# Altium schematic symbol library MCU_NXP_LPC.SchLib: 105 symbols (part 2 of 2)
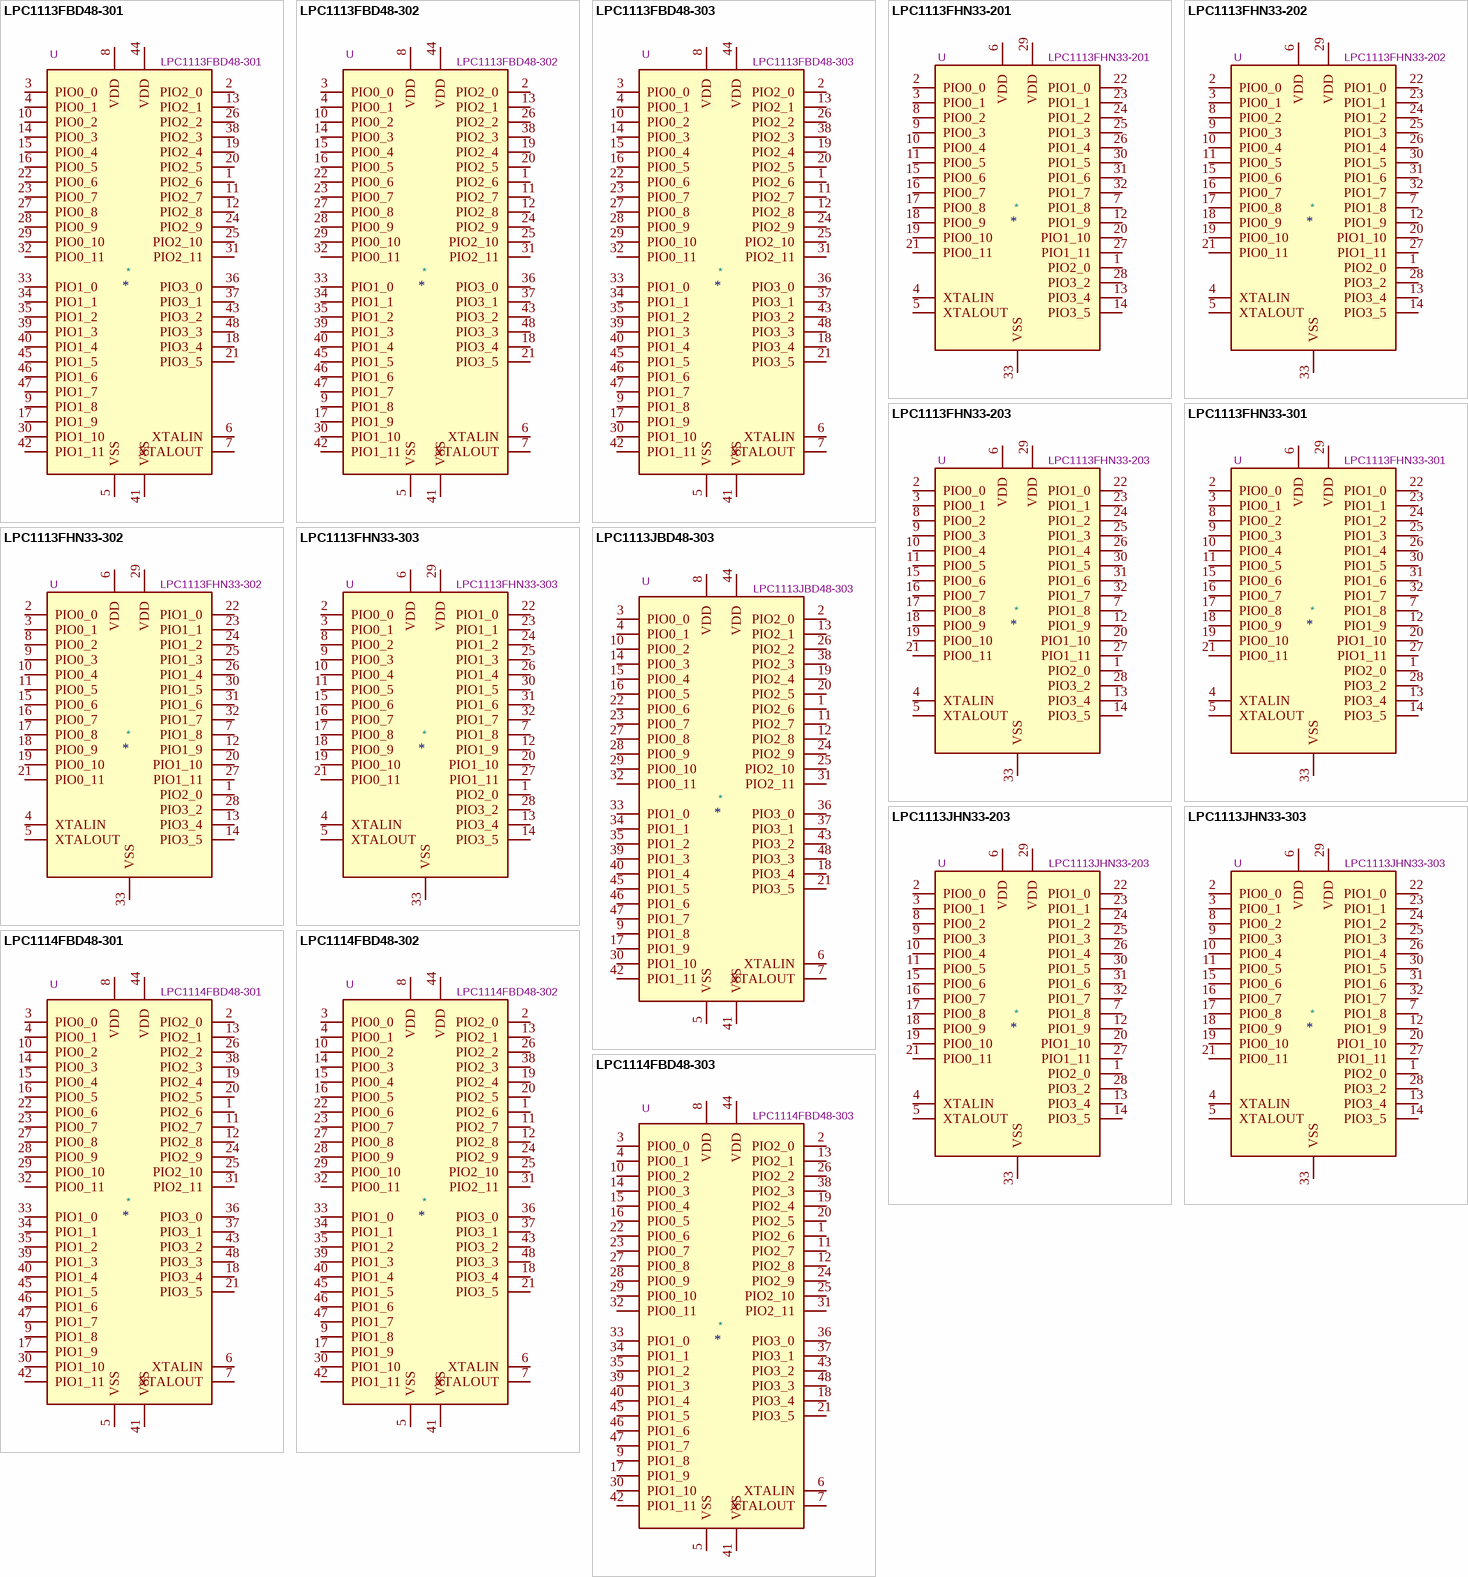
[diagram p8: symbols LPC1113FBD48-301 to LPC1114FBD48-303]

## LPC1114FBD48-301
designator *  value LPC1114FBD48-301  Reference: U
32-bit ARM Cortex-M0 microcontroller, 32KB flash, 8KB SRAM; ki_keywords: ARM, 32-bit, Cortex-M0, M0, NXP, microcontroller; ki_fp_filters: *QFP*7x7mm*P0.5mm*; Footprint: Package_QFP:LQFP-48_7x7mm_P0.5mm; Datasheet: http://www.nxp.com/docs/en/data-sheet/LPC111X.pdf; Description_: 32-bit ARM Cortex-M0 microcontroller, 32KB flash, 8KB SRAM
pins: 1 PIO2_6, 2 PIO2_0, 3 PIO0_0, 4 PIO0_1, 5 VSS, 6 XTALIN, 7 XTALOUT, 8 VDD, 9 PIO1_8, 10 PIO0_2, 11 PIO2_7, 12 PIO2_8, 13 PIO2_1, 14 PIO0_3, 15 PIO0_4, 16 PIO0_5, 17 PIO1_9, 18 PIO3_4, 19 PIO2_4, 20 PIO2_5, 21 PIO3_5, 22 PIO0_6, 23 PIO0_7, 24 PIO2_9, 25 PIO2_10, 26 PIO2_2, 27 PIO0_8, 28 PIO0_9, 29 PIO0_10, 30 PIO1_10, 31 PIO2_11, 32 PIO0_11, 33 PIO1_0, 34 PIO1_1, 35 PIO1_2, 36 PIO3_0, 37 PIO3_1, 38 PIO2_3, 39 PIO1_3, 40 PIO1_4, 41 VSS, 42 PIO1_11, 43 PIO3_2, 44 VDD, 45 PIO1_5, 46 PIO1_6, 47 PIO1_7, 48 PIO3_3

## LPC1114FBD48-302
designator *  value LPC1114FBD48-302  Reference: U
32-bit ARM Cortex-M0 microcontroller, 32KB flash, 8KB SRAM, power profile; ki_keywords: ARM, 32-bit, Cortex-M0, M0, NXP, microcontroller; ki_fp_filters: *QFP*7x7mm*P0.5mm*; Footprint: Package_QFP:LQFP-48_7x7mm_P0.5mm; Datasheet: http://www.nxp.com/docs/en/data-sheet/LPC111X.pdf; Description_: 32-bit ARM Cortex-M0 microcontroller, 32KB flash, 8KB SRAM, power profile
pins: 1 PIO2_6, 2 PIO2_0, 3 PIO0_0, 4 PIO0_1, 5 VSS, 6 XTALIN, 7 XTALOUT, 8 VDD, 9 PIO1_8, 10 PIO0_2, 11 PIO2_7, 12 PIO2_8, 13 PIO2_1, 14 PIO0_3, 15 PIO0_4, 16 PIO0_5, 17 PIO1_9, 18 PIO3_4, 19 PIO2_4, 20 PIO2_5, 21 PIO3_5, 22 PIO0_6, 23 PIO0_7, 24 PIO2_9, 25 PIO2_10, 26 PIO2_2, 27 PIO0_8, 28 PIO0_9, 29 PIO0_10, 30 PIO1_10, 31 PIO2_11, 32 PIO0_11, 33 PIO1_0, 34 PIO1_1, 35 PIO1_2, 36 PIO3_0, 37 PIO3_1, 38 PIO2_3, 39 PIO1_3, 40 PIO1_4, 41 VSS, 42 PIO1_11, 43 PIO3_2, 44 VDD, 45 PIO1_5, 46 PIO1_6, 47 PIO1_7, 48 PIO3_3

## LPC1114FBD48-303
designator *  value LPC1114FBD48-303  Reference: U
32-bit ARM Cortex-M0 microcontroller, 32KB flash, 8KB SRAM, power profile; ki_keywords: ARM, 32-bit, Cortex-M0, M0, NXP, microcontroller; ki_fp_filters: *QFP*7x7mm*P0.5mm*; Footprint: Package_QFP:LQFP-48_7x7mm_P0.5mm; Datasheet: http://www.nxp.com/docs/en/data-sheet/LPC111X.pdf; Description_: 32-bit ARM Cortex-M0 microcontroller, 32KB flash, 8KB SRAM, power profile
pins: 1 PIO2_6, 2 PIO2_0, 3 PIO0_0, 4 PIO0_1, 5 VSS, 6 XTALIN, 7 XTALOUT, 8 VDD, 9 PIO1_8, 10 PIO0_2, 11 PIO2_7, 12 PIO2_8, 13 PIO2_1, 14 PIO0_3, 15 PIO0_4, 16 PIO0_5, 17 PIO1_9, 18 PIO3_4, 19 PIO2_4, 20 PIO2_5, 21 PIO3_5, 22 PIO0_6, 23 PIO0_7, 24 PIO2_9, 25 PIO2_10, 26 PIO2_2, 27 PIO0_8, 28 PIO0_9, 29 PIO0_10, 30 PIO1_10, 31 PIO2_11, 32 PIO0_11, 33 PIO1_0, 34 PIO1_1, 35 PIO1_2, 36 PIO3_0, 37 PIO3_1, 38 PIO2_3, 39 PIO1_3, 40 PIO1_4, 41 VSS, 42 PIO1_11, 43 PIO3_2, 44 VDD, 45 PIO1_5, 46 PIO1_6, 47 PIO1_7, 48 PIO3_3

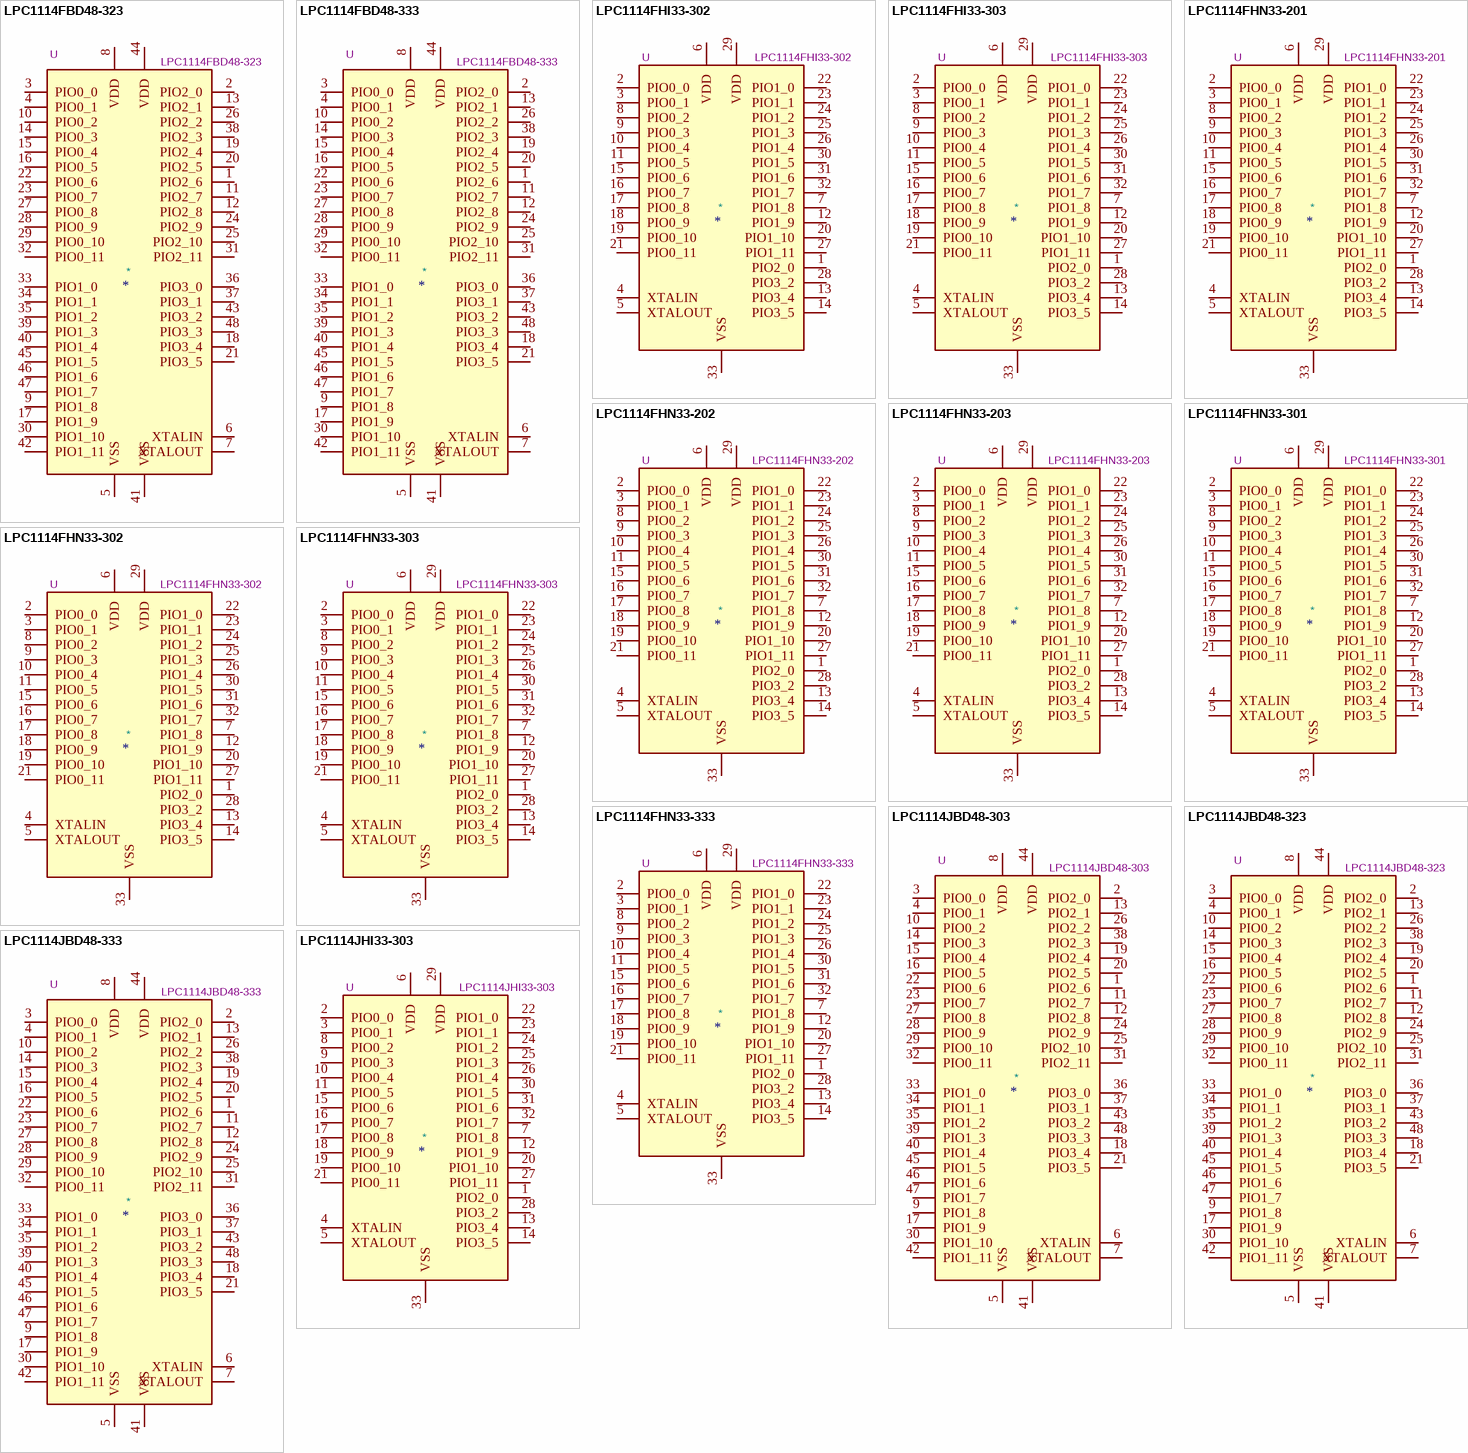
[diagram p4: symbols LPC1114FBD48-323 to LPC1114JHI33-303]

## LPC1114FBD48-323
designator *  value LPC1114FBD48-323  Reference: U
32-bit ARM Cortex-M0 microcontroller, 48KB flash, 8KB SRAM, power profile; ki_keywords: ARM, 32-bit, Cortex-M0, M0, NXP, microcontroller; ki_fp_filters: *QFP*7x7mm*P0.5mm*; Footprint: Package_QFP:LQFP-48_7x7mm_P0.5mm; Datasheet: http://www.nxp.com/docs/en/data-sheet/LPC111X.pdf; Description_: 32-bit ARM Cortex-M0 microcontroller, 48KB flash, 8KB SRAM, power profile
pins: 1 PIO2_6, 2 PIO2_0, 3 PIO0_0, 4 PIO0_1, 5 VSS, 6 XTALIN, 7 XTALOUT, 8 VDD, 9 PIO1_8, 10 PIO0_2, 11 PIO2_7, 12 PIO2_8, 13 PIO2_1, 14 PIO0_3, 15 PIO0_4, 16 PIO0_5, 17 PIO1_9, 18 PIO3_4, 19 PIO2_4, 20 PIO2_5, 21 PIO3_5, 22 PIO0_6, 23 PIO0_7, 24 PIO2_9, 25 PIO2_10, 26 PIO2_2, 27 PIO0_8, 28 PIO0_9, 29 PIO0_10, 30 PIO1_10, 31 PIO2_11, 32 PIO0_11, 33 PIO1_0, 34 PIO1_1, 35 PIO1_2, 36 PIO3_0, 37 PIO3_1, 38 PIO2_3, 39 PIO1_3, 40 PIO1_4, 41 VSS, 42 PIO1_11, 43 PIO3_2, 44 VDD, 45 PIO1_5, 46 PIO1_6, 47 PIO1_7, 48 PIO3_3

## LPC1114FBD48-333
designator *  value LPC1114FBD48-333  Reference: U
32-bit ARM Cortex-M0 microcontroller, 56KB flash, 8KB SRAM, power profile; ki_keywords: ARM, 32-bit, Cortex-M0, M0, NXP, microcontroller; ki_fp_filters: *QFP*7x7mm*P0.5mm*; Footprint: Package_QFP:LQFP-48_7x7mm_P0.5mm; Datasheet: http://www.nxp.com/docs/en/data-sheet/LPC111X.pdf; Description_: 32-bit ARM Cortex-M0 microcontroller, 56KB flash, 8KB SRAM, power profile
pins: 1 PIO2_6, 2 PIO2_0, 3 PIO0_0, 4 PIO0_1, 5 VSS, 6 XTALIN, 7 XTALOUT, 8 VDD, 9 PIO1_8, 10 PIO0_2, 11 PIO2_7, 12 PIO2_8, 13 PIO2_1, 14 PIO0_3, 15 PIO0_4, 16 PIO0_5, 17 PIO1_9, 18 PIO3_4, 19 PIO2_4, 20 PIO2_5, 21 PIO3_5, 22 PIO0_6, 23 PIO0_7, 24 PIO2_9, 25 PIO2_10, 26 PIO2_2, 27 PIO0_8, 28 PIO0_9, 29 PIO0_10, 30 PIO1_10, 31 PIO2_11, 32 PIO0_11, 33 PIO1_0, 34 PIO1_1, 35 PIO1_2, 36 PIO3_0, 37 PIO3_1, 38 PIO2_3, 39 PIO1_3, 40 PIO1_4, 41 VSS, 42 PIO1_11, 43 PIO3_2, 44 VDD, 45 PIO1_5, 46 PIO1_6, 47 PIO1_7, 48 PIO3_3

## LPC1114FHI33-302
designator *  value LPC1114FHI33-302  Reference: U
32-bit ARM Cortex-M0 microcontroller, 32KB flash, 8KB SRAM, power profile; ki_keywords: ARM, 32-bit, Cortex-M0, M0, NXP, microcontroller; ki_fp_filters: *QFN*5x5mm*P0.5mm*; Footprint: Package_DFN_QFN:QFN-32-1EP_5x5mm_P0.5mm_EP3.45x3.45mm; Datasheet: https://www.nxp.com/docs/en/data-sheet/LPC111X.pdf; Description_: 32-bit ARM Cortex-M0 microcontroller, 32KB flash, 8KB SRAM, power profile
pins: 1 PIO2_0, 2 PIO0_0, 3 PIO0_1, 4 XTALIN, 5 XTALOUT, 6 VDD, 7 PIO1_8, 8 PIO0_2, 9 PIO0_3, 10 PIO0_4, 11 PIO0_5, 12 PIO1_9, 13 PIO3_4, 14 PIO3_5, 15 PIO0_6, 16 PIO0_7, 17 PIO0_8, 18 PIO0_9, 19 PIO0_10, 20 PIO1_10, 21 PIO0_11, 22 PIO1_0, 23 PIO1_1, 24 PIO1_2, 25 PIO1_3, 26 PIO1_4, 27 PIO1_11, 28 PIO3_2, 29 VDD, 30 PIO1_5, 31 PIO1_6, 32 PIO1_7, 33 VSS

## LPC1114FHI33-303
designator *  value LPC1114FHI33-303  Reference: U
32-bit ARM Cortex-M0 microcontroller, 32KB flash, 8KB SRAM, power profile; ki_keywords: ARM, 32-bit, Cortex-M0, M0, NXP, microcontroller; ki_fp_filters: *QFN*5x5mm*P0.5mm*; Footprint: Package_DFN_QFN:QFN-32-1EP_5x5mm_P0.5mm_EP3.45x3.45mm; Datasheet: https://www.nxp.com/docs/en/data-sheet/LPC111X.pdf; Description_: 32-bit ARM Cortex-M0 microcontroller, 32KB flash, 8KB SRAM, power profile
pins: 1 PIO2_0, 2 PIO0_0, 3 PIO0_1, 4 XTALIN, 5 XTALOUT, 6 VDD, 7 PIO1_8, 8 PIO0_2, 9 PIO0_3, 10 PIO0_4, 11 PIO0_5, 12 PIO1_9, 13 PIO3_4, 14 PIO3_5, 15 PIO0_6, 16 PIO0_7, 17 PIO0_8, 18 PIO0_9, 19 PIO0_10, 20 PIO1_10, 21 PIO0_11, 22 PIO1_0, 23 PIO1_1, 24 PIO1_2, 25 PIO1_3, 26 PIO1_4, 27 PIO1_11, 28 PIO3_2, 29 VDD, 30 PIO1_5, 31 PIO1_6, 32 PIO1_7, 33 VSS

## LPC1114FHN33-201
designator *  value LPC1114FHN33-201  Reference: U
32-bit ARM Cortex-M0 microcontroller, 32KB flash, 4KB SRAM; ki_keywords: ARM, 32-bit, Cortex-M0, M0, NXP, microcontroller; ki_fp_filters: *QFN*7x7mm*P0.65mm*; Footprint: Package_DFN_QFN:QFN-32-1EP_7x7mm_P0.65mm_EP4.7x4.7mm_ThermalVias; Datasheet: https://www.nxp.com/docs/en/data-sheet/LPC111X.pdf; Description_: 32-bit ARM Cortex-M0 microcontroller, 32KB flash, 4KB SRAM
pins: 1 PIO2_0, 2 PIO0_0, 3 PIO0_1, 4 XTALIN, 5 XTALOUT, 6 VDD, 7 PIO1_8, 8 PIO0_2, 9 PIO0_3, 10 PIO0_4, 11 PIO0_5, 12 PIO1_9, 13 PIO3_4, 14 PIO3_5, 15 PIO0_6, 16 PIO0_7, 17 PIO0_8, 18 PIO0_9, 19 PIO0_10, 20 PIO1_10, 21 PIO0_11, 22 PIO1_0, 23 PIO1_1, 24 PIO1_2, 25 PIO1_3, 26 PIO1_4, 27 PIO1_11, 28 PIO3_2, 29 VDD, 30 PIO1_5, 31 PIO1_6, 32 PIO1_7, 33 VSS

## LPC1114FHN33-202
designator *  value LPC1114FHN33-202  Reference: U
32-bit ARM Cortex-M0 microcontroller, 32KB flash, 4KB SRAM, power profile; ki_keywords: ARM, 32-bit, Cortex-M0, M0, NXP, microcontroller; ki_fp_filters: *QFN*7x7mm*P0.65mm*; Footprint: Package_DFN_QFN:QFN-32-1EP_7x7mm_P0.65mm_EP4.7x4.7mm_ThermalVias; Datasheet: https://www.nxp.com/docs/en/data-sheet/LPC111X.pdf; Description_: 32-bit ARM Cortex-M0 microcontroller, 32KB flash, 4KB SRAM, power profile
pins: 1 PIO2_0, 2 PIO0_0, 3 PIO0_1, 4 XTALIN, 5 XTALOUT, 6 VDD, 7 PIO1_8, 8 PIO0_2, 9 PIO0_3, 10 PIO0_4, 11 PIO0_5, 12 PIO1_9, 13 PIO3_4, 14 PIO3_5, 15 PIO0_6, 16 PIO0_7, 17 PIO0_8, 18 PIO0_9, 19 PIO0_10, 20 PIO1_10, 21 PIO0_11, 22 PIO1_0, 23 PIO1_1, 24 PIO1_2, 25 PIO1_3, 26 PIO1_4, 27 PIO1_11, 28 PIO3_2, 29 VDD, 30 PIO1_5, 31 PIO1_6, 32 PIO1_7, 33 VSS

## LPC1114FHN33-203
designator *  value LPC1114FHN33-203  Reference: U
32-bit ARM Cortex-M0 microcontroller, 32KB flash, 4KB SRAM; ki_keywords: ARM, 32-bit, Cortex-M0, M0, NXP, microcontroller; ki_fp_filters: *QFN*7x7mm*P0.65mm*; Footprint: Package_DFN_QFN:QFN-32-1EP_7x7mm_P0.65mm_EP4.7x4.7mm_ThermalVias; Datasheet: https://www.nxp.com/docs/en/data-sheet/LPC111X.pdf; Description_: 32-bit ARM Cortex-M0 microcontroller, 32KB flash, 4KB SRAM
pins: 1 PIO2_0, 2 PIO0_0, 3 PIO0_1, 4 XTALIN, 5 XTALOUT, 6 VDD, 7 PIO1_8, 8 PIO0_2, 9 PIO0_3, 10 PIO0_4, 11 PIO0_5, 12 PIO1_9, 13 PIO3_4, 14 PIO3_5, 15 PIO0_6, 16 PIO0_7, 17 PIO0_8, 18 PIO0_9, 19 PIO0_10, 20 PIO1_10, 21 PIO0_11, 22 PIO1_0, 23 PIO1_1, 24 PIO1_2, 25 PIO1_3, 26 PIO1_4, 27 PIO1_11, 28 PIO3_2, 29 VDD, 30 PIO1_5, 31 PIO1_6, 32 PIO1_7, 33 VSS

## LPC1114FHN33-301
designator *  value LPC1114FHN33-301  Reference: U
32-bit ARM Cortex-M0 microcontroller, 32KB flash, 8KB SRAM; ki_keywords: ARM, 32-bit, Cortex-M0, M0, NXP, microcontroller; ki_fp_filters: *QFN*7x7mm*P0.65mm*; Footprint: Package_DFN_QFN:QFN-32-1EP_7x7mm_P0.65mm_EP4.7x4.7mm_ThermalVias; Datasheet: https://www.nxp.com/docs/en/data-sheet/LPC111X.pdf; Description_: 32-bit ARM Cortex-M0 microcontroller, 32KB flash, 8KB SRAM
pins: 1 PIO2_0, 2 PIO0_0, 3 PIO0_1, 4 XTALIN, 5 XTALOUT, 6 VDD, 7 PIO1_8, 8 PIO0_2, 9 PIO0_3, 10 PIO0_4, 11 PIO0_5, 12 PIO1_9, 13 PIO3_4, 14 PIO3_5, 15 PIO0_6, 16 PIO0_7, 17 PIO0_8, 18 PIO0_9, 19 PIO0_10, 20 PIO1_10, 21 PIO0_11, 22 PIO1_0, 23 PIO1_1, 24 PIO1_2, 25 PIO1_3, 26 PIO1_4, 27 PIO1_11, 28 PIO3_2, 29 VDD, 30 PIO1_5, 31 PIO1_6, 32 PIO1_7, 33 VSS

## LPC1114FHN33-302
designator *  value LPC1114FHN33-302  Reference: U
32-bit ARM Cortex-M0 microcontroller, 32KB flash, 8KB SRAM, power profile; ki_keywords: ARM, 32-bit, Cortex-M0, M0, NXP, microcontroller; ki_fp_filters: *QFN*7x7mm*P0.65mm*; Footprint: Package_DFN_QFN:QFN-32-1EP_7x7mm_P0.65mm_EP4.7x4.7mm_ThermalVias; Datasheet: https://www.nxp.com/docs/en/data-sheet/LPC111X.pdf; Description_: 32-bit ARM Cortex-M0 microcontroller, 32KB flash, 8KB SRAM, power profile
pins: 1 PIO2_0, 2 PIO0_0, 3 PIO0_1, 4 XTALIN, 5 XTALOUT, 6 VDD, 7 PIO1_8, 8 PIO0_2, 9 PIO0_3, 10 PIO0_4, 11 PIO0_5, 12 PIO1_9, 13 PIO3_4, 14 PIO3_5, 15 PIO0_6, 16 PIO0_7, 17 PIO0_8, 18 PIO0_9, 19 PIO0_10, 20 PIO1_10, 21 PIO0_11, 22 PIO1_0, 23 PIO1_1, 24 PIO1_2, 25 PIO1_3, 26 PIO1_4, 27 PIO1_11, 28 PIO3_2, 29 VDD, 30 PIO1_5, 31 PIO1_6, 32 PIO1_7, 33 VSS

## LPC1114FHN33-303
designator *  value LPC1114FHN33-303  Reference: U
32-bit ARM Cortex-M0 microcontroller, 32KB flash, 8KB SRAM; ki_keywords: ARM, 32-bit, Cortex-M0, M0, NXP, microcontroller; ki_fp_filters: *QFN*7x7mm*P0.65mm*; Footprint: Package_DFN_QFN:QFN-32-1EP_7x7mm_P0.65mm_EP4.7x4.7mm_ThermalVias; Datasheet: https://www.nxp.com/docs/en/data-sheet/LPC111X.pdf; Description_: 32-bit ARM Cortex-M0 microcontroller, 32KB flash, 8KB SRAM
pins: 1 PIO2_0, 2 PIO0_0, 3 PIO0_1, 4 XTALIN, 5 XTALOUT, 6 VDD, 7 PIO1_8, 8 PIO0_2, 9 PIO0_3, 10 PIO0_4, 11 PIO0_5, 12 PIO1_9, 13 PIO3_4, 14 PIO3_5, 15 PIO0_6, 16 PIO0_7, 17 PIO0_8, 18 PIO0_9, 19 PIO0_10, 20 PIO1_10, 21 PIO0_11, 22 PIO1_0, 23 PIO1_1, 24 PIO1_2, 25 PIO1_3, 26 PIO1_4, 27 PIO1_11, 28 PIO3_2, 29 VDD, 30 PIO1_5, 31 PIO1_6, 32 PIO1_7, 33 VSS

## LPC1114FHN33-333
designator *  value LPC1114FHN33-333  Reference: U
32-bit ARM Cortex-M0 microcontroller, 56KB flash, 8KB SRAM; ki_keywords: ARM, 32-bit, Cortex-M0, M0, NXP, microcontroller; ki_fp_filters: *QFN*7x7mm*P0.65mm*; Footprint: Package_DFN_QFN:QFN-32-1EP_7x7mm_P0.65mm_EP4.7x4.7mm_ThermalVias; Datasheet: https://www.nxp.com/docs/en/data-sheet/LPC111X.pdf; Description_: 32-bit ARM Cortex-M0 microcontroller, 56KB flash, 8KB SRAM
pins: 1 PIO2_0, 2 PIO0_0, 3 PIO0_1, 4 XTALIN, 5 XTALOUT, 6 VDD, 7 PIO1_8, 8 PIO0_2, 9 PIO0_3, 10 PIO0_4, 11 PIO0_5, 12 PIO1_9, 13 PIO3_4, 14 PIO3_5, 15 PIO0_6, 16 PIO0_7, 17 PIO0_8, 18 PIO0_9, 19 PIO0_10, 20 PIO1_10, 21 PIO0_11, 22 PIO1_0, 23 PIO1_1, 24 PIO1_2, 25 PIO1_3, 26 PIO1_4, 27 PIO1_11, 28 PIO3_2, 29 VDD, 30 PIO1_5, 31 PIO1_6, 32 PIO1_7, 33 VSS

## LPC1114JBD48-303
designator *  value LPC1114JBD48-303  Reference: U
32-bit ARM Cortex-M0 microcontroller, 32KB flash, 8KB SRAM, power profile; ki_keywords: ARM, 32-bit, Cortex-M0, M0, NXP, microcontroller; ki_fp_filters: *QFP*7x7mm*P0.5mm*; Footprint: Package_QFP:LQFP-48_7x7mm_P0.5mm; Datasheet: http://www.nxp.com/docs/en/data-sheet/LPC111X.pdf; Description_: 32-bit ARM Cortex-M0 microcontroller, 32KB flash, 8KB SRAM, power profile
pins: 1 PIO2_6, 2 PIO2_0, 3 PIO0_0, 4 PIO0_1, 5 VSS, 6 XTALIN, 7 XTALOUT, 8 VDD, 9 PIO1_8, 10 PIO0_2, 11 PIO2_7, 12 PIO2_8, 13 PIO2_1, 14 PIO0_3, 15 PIO0_4, 16 PIO0_5, 17 PIO1_9, 18 PIO3_4, 19 PIO2_4, 20 PIO2_5, 21 PIO3_5, 22 PIO0_6, 23 PIO0_7, 24 PIO2_9, 25 PIO2_10, 26 PIO2_2, 27 PIO0_8, 28 PIO0_9, 29 PIO0_10, 30 PIO1_10, 31 PIO2_11, 32 PIO0_11, 33 PIO1_0, 34 PIO1_1, 35 PIO1_2, 36 PIO3_0, 37 PIO3_1, 38 PIO2_3, 39 PIO1_3, 40 PIO1_4, 41 VSS, 42 PIO1_11, 43 PIO3_2, 44 VDD, 45 PIO1_5, 46 PIO1_6, 47 PIO1_7, 48 PIO3_3

## LPC1114JBD48-323
designator *  value LPC1114JBD48-323  Reference: U
32-bit ARM Cortex-M0 microcontroller, 48KB flash, 8KB SRAM, power profile; ki_keywords: ARM, 32-bit, Cortex-M0, M0, NXP, microcontroller; ki_fp_filters: *QFP*7x7mm*P0.5mm*; Footprint: Package_QFP:LQFP-48_7x7mm_P0.5mm; Datasheet: http://www.nxp.com/docs/en/data-sheet/LPC111X.pdf; Description_: 32-bit ARM Cortex-M0 microcontroller, 48KB flash, 8KB SRAM, power profile
pins: 1 PIO2_6, 2 PIO2_0, 3 PIO0_0, 4 PIO0_1, 5 VSS, 6 XTALIN, 7 XTALOUT, 8 VDD, 9 PIO1_8, 10 PIO0_2, 11 PIO2_7, 12 PIO2_8, 13 PIO2_1, 14 PIO0_3, 15 PIO0_4, 16 PIO0_5, 17 PIO1_9, 18 PIO3_4, 19 PIO2_4, 20 PIO2_5, 21 PIO3_5, 22 PIO0_6, 23 PIO0_7, 24 PIO2_9, 25 PIO2_10, 26 PIO2_2, 27 PIO0_8, 28 PIO0_9, 29 PIO0_10, 30 PIO1_10, 31 PIO2_11, 32 PIO0_11, 33 PIO1_0, 34 PIO1_1, 35 PIO1_2, 36 PIO3_0, 37 PIO3_1, 38 PIO2_3, 39 PIO1_3, 40 PIO1_4, 41 VSS, 42 PIO1_11, 43 PIO3_2, 44 VDD, 45 PIO1_5, 46 PIO1_6, 47 PIO1_7, 48 PIO3_3

## LPC1114JBD48-333
designator *  value LPC1114JBD48-333  Reference: U
32-bit ARM Cortex-M0 microcontroller, 56KB flash, 8KB SRAM, power profile; ki_keywords: ARM, 32-bit, Cortex-M0, M0, NXP, microcontroller; ki_fp_filters: *QFP*7x7mm*P0.5mm*; Footprint: Package_QFP:LQFP-48_7x7mm_P0.5mm; Datasheet: http://www.nxp.com/docs/en/data-sheet/LPC111X.pdf; Description_: 32-bit ARM Cortex-M0 microcontroller, 56KB flash, 8KB SRAM, power profile
pins: 1 PIO2_6, 2 PIO2_0, 3 PIO0_0, 4 PIO0_1, 5 VSS, 6 XTALIN, 7 XTALOUT, 8 VDD, 9 PIO1_8, 10 PIO0_2, 11 PIO2_7, 12 PIO2_8, 13 PIO2_1, 14 PIO0_3, 15 PIO0_4, 16 PIO0_5, 17 PIO1_9, 18 PIO3_4, 19 PIO2_4, 20 PIO2_5, 21 PIO3_5, 22 PIO0_6, 23 PIO0_7, 24 PIO2_9, 25 PIO2_10, 26 PIO2_2, 27 PIO0_8, 28 PIO0_9, 29 PIO0_10, 30 PIO1_10, 31 PIO2_11, 32 PIO0_11, 33 PIO1_0, 34 PIO1_1, 35 PIO1_2, 36 PIO3_0, 37 PIO3_1, 38 PIO2_3, 39 PIO1_3, 40 PIO1_4, 41 VSS, 42 PIO1_11, 43 PIO3_2, 44 VDD, 45 PIO1_5, 46 PIO1_6, 47 PIO1_7, 48 PIO3_3

## LPC1114JHI33-303
designator *  value LPC1114JHI33-303  Reference: U
32-bit ARM Cortex-M0 microcontroller, 32KB flash, 8KB SRAM, power profile; ki_keywords: ARM, 32-bit, Cortex-M0, M0, NXP, microcontroller; ki_fp_filters: *QFN*5x5mm*P0.5mm*; Footprint: Package_DFN_QFN:QFN-32-1EP_5x5mm_P0.5mm_EP3.45x3.45mm; Datasheet: https://www.nxp.com/docs/en/data-sheet/LPC111X.pdf; Description_: 32-bit ARM Cortex-M0 microcontroller, 32KB flash, 8KB SRAM, power profile
pins: 1 PIO2_0, 2 PIO0_0, 3 PIO0_1, 4 XTALIN, 5 XTALOUT, 6 VDD, 7 PIO1_8, 8 PIO0_2, 9 PIO0_3, 10 PIO0_4, 11 PIO0_5, 12 PIO1_9, 13 PIO3_4, 14 PIO3_5, 15 PIO0_6, 16 PIO0_7, 17 PIO0_8, 18 PIO0_9, 19 PIO0_10, 20 PIO1_10, 21 PIO0_11, 22 PIO1_0, 23 PIO1_1, 24 PIO1_2, 25 PIO1_3, 26 PIO1_4, 27 PIO1_11, 28 PIO3_2, 29 VDD, 30 PIO1_5, 31 PIO1_6, 32 PIO1_7, 33 VSS

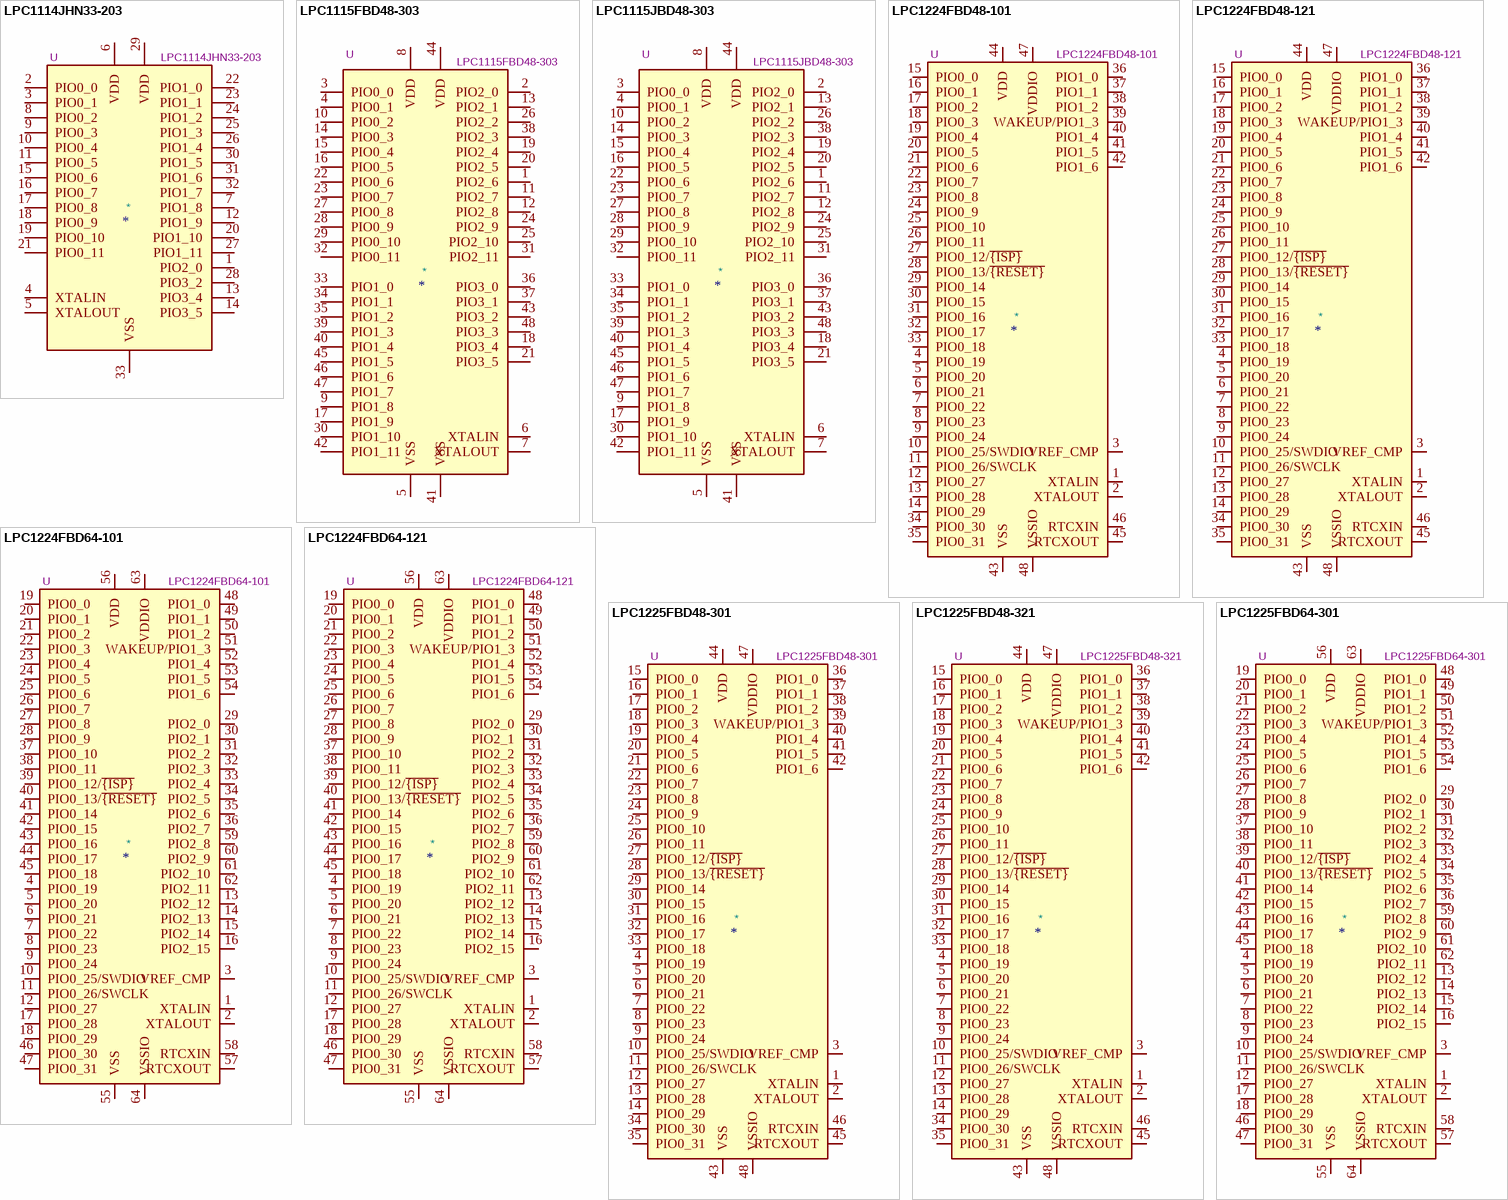
[diagram p5: symbols LPC1114JHN33-203 to LPC1225FBD64-301]

## LPC1114JHN33-203
designator *  value LPC1114JHN33-203  Reference: U
32-bit ARM Cortex-M0 microcontroller, 32KB flash, 4KB SRAM; ki_keywords: ARM, 32-bit, Cortex-M0, M0, NXP, microcontroller; ki_fp_filters: *QFN*7x7mm*P0.65mm*; Footprint: Package_DFN_QFN:QFN-32-1EP_7x7mm_P0.65mm_EP4.7x4.7mm_ThermalVias; Datasheet: https://www.nxp.com/docs/en/data-sheet/LPC111X.pdf; Description_: 32-bit ARM Cortex-M0 microcontroller, 32KB flash, 4KB SRAM
pins: 1 PIO2_0, 2 PIO0_0, 3 PIO0_1, 4 XTALIN, 5 XTALOUT, 6 VDD, 7 PIO1_8, 8 PIO0_2, 9 PIO0_3, 10 PIO0_4, 11 PIO0_5, 12 PIO1_9, 13 PIO3_4, 14 PIO3_5, 15 PIO0_6, 16 PIO0_7, 17 PIO0_8, 18 PIO0_9, 19 PIO0_10, 20 PIO1_10, 21 PIO0_11, 22 PIO1_0, 23 PIO1_1, 24 PIO1_2, 25 PIO1_3, 26 PIO1_4, 27 PIO1_11, 28 PIO3_2, 29 VDD, 30 PIO1_5, 31 PIO1_6, 32 PIO1_7, 33 VSS

## LPC1115FBD48-303
designator *  value LPC1115FBD48-303  Reference: U
32-bit ARM Cortex-M0 microcontroller, 64KB flash, 8KB SRAM, power profile; ki_keywords: ARM, 32-bit, Cortex-M0, M0, NXP, microcontroller; ki_fp_filters: *QFP*7x7mm*P0.5mm*; Footprint: Package_QFP:LQFP-48_7x7mm_P0.5mm; Datasheet: http://www.nxp.com/docs/en/data-sheet/LPC111X.pdf; Description_: 32-bit ARM Cortex-M0 microcontroller, 64KB flash, 8KB SRAM, power profile
pins: 1 PIO2_6, 2 PIO2_0, 3 PIO0_0, 4 PIO0_1, 5 VSS, 6 XTALIN, 7 XTALOUT, 8 VDD, 9 PIO1_8, 10 PIO0_2, 11 PIO2_7, 12 PIO2_8, 13 PIO2_1, 14 PIO0_3, 15 PIO0_4, 16 PIO0_5, 17 PIO1_9, 18 PIO3_4, 19 PIO2_4, 20 PIO2_5, 21 PIO3_5, 22 PIO0_6, 23 PIO0_7, 24 PIO2_9, 25 PIO2_10, 26 PIO2_2, 27 PIO0_8, 28 PIO0_9, 29 PIO0_10, 30 PIO1_10, 31 PIO2_11, 32 PIO0_11, 33 PIO1_0, 34 PIO1_1, 35 PIO1_2, 36 PIO3_0, 37 PIO3_1, 38 PIO2_3, 39 PIO1_3, 40 PIO1_4, 41 VSS, 42 PIO1_11, 43 PIO3_2, 44 VDD, 45 PIO1_5, 46 PIO1_6, 47 PIO1_7, 48 PIO3_3

## LPC1115JBD48-303
designator *  value LPC1115JBD48-303  Reference: U
32-bit ARM Cortex-M0 microcontroller, 64KB flash, 8KB SRAM, power profile; ki_keywords: ARM, 32-bit, Cortex-M0, M0, NXP, microcontroller; ki_fp_filters: *QFP*7x7mm*P0.5mm*; Footprint: Package_QFP:LQFP-48_7x7mm_P0.5mm; Datasheet: http://www.nxp.com/docs/en/data-sheet/LPC111X.pdf; Description_: 32-bit ARM Cortex-M0 microcontroller, 64KB flash, 8KB SRAM, power profile
pins: 1 PIO2_6, 2 PIO2_0, 3 PIO0_0, 4 PIO0_1, 5 VSS, 6 XTALIN, 7 XTALOUT, 8 VDD, 9 PIO1_8, 10 PIO0_2, 11 PIO2_7, 12 PIO2_8, 13 PIO2_1, 14 PIO0_3, 15 PIO0_4, 16 PIO0_5, 17 PIO1_9, 18 PIO3_4, 19 PIO2_4, 20 PIO2_5, 21 PIO3_5, 22 PIO0_6, 23 PIO0_7, 24 PIO2_9, 25 PIO2_10, 26 PIO2_2, 27 PIO0_8, 28 PIO0_9, 29 PIO0_10, 30 PIO1_10, 31 PIO2_11, 32 PIO0_11, 33 PIO1_0, 34 PIO1_1, 35 PIO1_2, 36 PIO3_0, 37 PIO3_1, 38 PIO2_3, 39 PIO1_3, 40 PIO1_4, 41 VSS, 42 PIO1_11, 43 PIO3_2, 44 VDD, 45 PIO1_5, 46 PIO1_6, 47 PIO1_7, 48 PIO3_3

## LPC1224FBD48-101
designator *  value LPC1224FBD48-101  Reference: U
LPC122x 32-bit ARM Cortex-M0 microcontroller, 32 kB FLASH, 4 kB SRAM, LQFP-48; ki_keywords: ARM, 32-bit, Cortex-M0, M0, NXP, microcontroller; ki_fp_filters: LQFP*7x7mm*P0.5mm*; Footprint: Package_QFP:LQFP-48_7x7mm_P0.5mm; Datasheet: https://www.nxp.com/docs/en/data-sheet/LPC122X.pdf; Description_: LPC122x 32-bit ARM Cortex-M0 microcontroller, 32 kB FLASH, 4 kB SRAM, LQFP-48
pins: 1 XTALIN, 2 XTALOUT, 3 VREF_CMP, 4 PIO0_19, 5 PIO0_20, 6 PIO0_21, 7 PIO0_22, 8 PIO0_23, 9 PIO0_24, 10 PIO0_25/SWDIO, 11 PIO0_26/SWCLK, 12 PIO0_27, 13 PIO0_28, 14 PIO0_29, 15 PIO0_0, 16 PIO0_1, 17 PIO0_2, 18 PIO0_3, 19 PIO0_4, 20 PIO0_5, 21 PIO0_6, 22 PIO0_7, 23 PIO0_8, 24 PIO0_9, 25 PIO0_10, 26 PIO0_11, 27 PIO0_12/~{{ISP}}, 28 PIO0_13/~{{RESET}}, 29 PIO0_14, 30 PIO0_15, 31 PIO0_16, 32 PIO0_17, 33 PIO0_18, 34 PIO0_30, 35 PIO0_31, 36 PIO1_0, 37 PIO1_1, 38 PIO1_2, 39 WAKEUP/PIO1_3, 40 PIO1_4, 41 PIO1_5, 42 PIO1_6, 43 VSS, 44 VDD, 45 RTCXOUT, 46 RTCXIN, 47 VDDIO, 48 VSSIO

## LPC1224FBD48-121
designator *  value LPC1224FBD48-121  Reference: U
LPC122x 32-bit ARM Cortex-M0 microcontroller, 48 kB FLASH, 4 kB SRAM, LQFP-48; ki_keywords: ARM, 32-bit, Cortex-M0, M0, NXP, microcontroller; ki_fp_filters: LQFP*7x7mm*P0.5mm*; Footprint: Package_QFP:LQFP-48_7x7mm_P0.5mm; Datasheet: https://www.nxp.com/docs/en/data-sheet/LPC122X.pdf; Description_: LPC122x 32-bit ARM Cortex-M0 microcontroller, 48 kB FLASH, 4 kB SRAM, LQFP-48
pins: 1 XTALIN, 2 XTALOUT, 3 VREF_CMP, 4 PIO0_19, 5 PIO0_20, 6 PIO0_21, 7 PIO0_22, 8 PIO0_23, 9 PIO0_24, 10 PIO0_25/SWDIO, 11 PIO0_26/SWCLK, 12 PIO0_27, 13 PIO0_28, 14 PIO0_29, 15 PIO0_0, 16 PIO0_1, 17 PIO0_2, 18 PIO0_3, 19 PIO0_4, 20 PIO0_5, 21 PIO0_6, 22 PIO0_7, 23 PIO0_8, 24 PIO0_9, 25 PIO0_10, 26 PIO0_11, 27 PIO0_12/~{{ISP}}, 28 PIO0_13/~{{RESET}}, 29 PIO0_14, 30 PIO0_15, 31 PIO0_16, 32 PIO0_17, 33 PIO0_18, 34 PIO0_30, 35 PIO0_31, 36 PIO1_0, 37 PIO1_1, 38 PIO1_2, 39 WAKEUP/PIO1_3, 40 PIO1_4, 41 PIO1_5, 42 PIO1_6, 43 VSS, 44 VDD, 45 RTCXOUT, 46 RTCXIN, 47 VDDIO, 48 VSSIO

## LPC1224FBD64-101
designator *  value LPC1224FBD64-101  Reference: U
LPC122x 32-bit ARM Cortex-M0 microcontroller, 32 kB FLASH, 4 kB SRAM, LQFP-64; ki_keywords: ARM, 32-bit, Cortex-M0, M0, NXP, microcontroller; ki_fp_filters: LQFP*10x10mm*P0.5mm*; Footprint: Package_QFP:LQFP-64_10x10mm_P0.5mm; Datasheet: https://www.nxp.com/docs/en/data-sheet/LPC122X.pdf; Description_: LPC122x 32-bit ARM Cortex-M0 microcontroller, 32 kB FLASH, 4 kB SRAM, LQFP-64
pins: 1 XTALIN, 2 XTALOUT, 3 VREF_CMP, 4 PIO0_19, 5 PIO0_20, 6 PIO0_21, 7 PIO0_22, 8 PIO0_23, 9 PIO0_24, 10 PIO0_25/SWDIO, 11 PIO0_26/SWCLK, 12 PIO0_27, 13 PIO2_12, 14 PIO2_13, 15 PIO2_14, 16 PIO2_15, 17 PIO0_28, 18 PIO0_29, 19 PIO0_0, 20 PIO0_1, 21 PIO0_2, 22 PIO0_3, 23 PIO0_4, 24 PIO0_5, 25 PIO0_6, 26 PIO0_7, 27 PIO0_8, 28 PIO0_9, 29 PIO2_0, 30 PIO2_1, 31 PIO2_2, 32 PIO2_3, 33 PIO2_4, 34 PIO2_5, 35 PIO2_6, 36 PIO2_7, 37 PIO0_10, 38 PIO0_11, 39 PIO0_12/~{{ISP}}, 40 PIO0_13/~{{RESET}}, 41 PIO0_14, 42 PIO0_15, 43 PIO0_16, 44 PIO0_17, 45 PIO0_18, 46 PIO0_30, 47 PIO0_31, 48 PIO1_0, 49 PIO1_1, 50 PIO1_2, 51 WAKEUP/PIO1_3, 52 PIO1_4, 53 PIO1_5, 54 PIO1_6, 55 VSS, 56 VDD, 57 RTCXOUT, 58 RTCXIN, 59 PIO2_8, 60 PIO2_9, 61 PIO2_10, 62 PIO2_11, 63 VDDIO, 64 VSSIO

## LPC1224FBD64-121
designator *  value LPC1224FBD64-121  Reference: U
LPC122x 32-bit ARM Cortex-M0 microcontroller, 48 kB FLASH, 4 kB SRAM, LQFP-64; ki_keywords: ARM, 32-bit, Cortex-M0, M0, NXP, microcontroller; ki_fp_filters: LQFP*10x10mm*P0.5mm*; Footprint: Package_QFP:LQFP-64_10x10mm_P0.5mm; Datasheet: https://www.nxp.com/docs/en/data-sheet/LPC122X.pdf; Description_: LPC122x 32-bit ARM Cortex-M0 microcontroller, 48 kB FLASH, 4 kB SRAM, LQFP-64
pins: 1 XTALIN, 2 XTALOUT, 3 VREF_CMP, 4 PIO0_19, 5 PIO0_20, 6 PIO0_21, 7 PIO0_22, 8 PIO0_23, 9 PIO0_24, 10 PIO0_25/SWDIO, 11 PIO0_26/SWCLK, 12 PIO0_27, 13 PIO2_12, 14 PIO2_13, 15 PIO2_14, 16 PIO2_15, 17 PIO0_28, 18 PIO0_29, 19 PIO0_0, 20 PIO0_1, 21 PIO0_2, 22 PIO0_3, 23 PIO0_4, 24 PIO0_5, 25 PIO0_6, 26 PIO0_7, 27 PIO0_8, 28 PIO0_9, 29 PIO2_0, 30 PIO2_1, 31 PIO2_2, 32 PIO2_3, 33 PIO2_4, 34 PIO2_5, 35 PIO2_6, 36 PIO2_7, 37 PIO0_10, 38 PIO0_11, 39 PIO0_12/~{{ISP}}, 40 PIO0_13/~{{RESET}}, 41 PIO0_14, 42 PIO0_15, 43 PIO0_16, 44 PIO0_17, 45 PIO0_18, 46 PIO0_30, 47 PIO0_31, 48 PIO1_0, 49 PIO1_1, 50 PIO1_2, 51 WAKEUP/PIO1_3, 52 PIO1_4, 53 PIO1_5, 54 PIO1_6, 55 VSS, 56 VDD, 57 RTCXOUT, 58 RTCXIN, 59 PIO2_8, 60 PIO2_9, 61 PIO2_10, 62 PIO2_11, 63 VDDIO, 64 VSSIO

## LPC1225FBD48-301
designator *  value LPC1225FBD48-301  Reference: U
LPC122x 32-bit ARM Cortex-M0 microcontroller, 64 kB FLASH, 8 kB SRAM, LQFP-48; ki_keywords: ARM, 32-bit, Cortex-M0, M0, NXP, microcontroller; ki_fp_filters: LQFP*7x7mm*P0.5mm*; Footprint: Package_QFP:LQFP-48_7x7mm_P0.5mm; Datasheet: https://www.nxp.com/docs/en/data-sheet/LPC122X.pdf; Description_: LPC122x 32-bit ARM Cortex-M0 microcontroller, 64 kB FLASH, 8 kB SRAM, LQFP-48
pins: 1 XTALIN, 2 XTALOUT, 3 VREF_CMP, 4 PIO0_19, 5 PIO0_20, 6 PIO0_21, 7 PIO0_22, 8 PIO0_23, 9 PIO0_24, 10 PIO0_25/SWDIO, 11 PIO0_26/SWCLK, 12 PIO0_27, 13 PIO0_28, 14 PIO0_29, 15 PIO0_0, 16 PIO0_1, 17 PIO0_2, 18 PIO0_3, 19 PIO0_4, 20 PIO0_5, 21 PIO0_6, 22 PIO0_7, 23 PIO0_8, 24 PIO0_9, 25 PIO0_10, 26 PIO0_11, 27 PIO0_12/~{{ISP}}, 28 PIO0_13/~{{RESET}}, 29 PIO0_14, 30 PIO0_15, 31 PIO0_16, 32 PIO0_17, 33 PIO0_18, 34 PIO0_30, 35 PIO0_31, 36 PIO1_0, 37 PIO1_1, 38 PIO1_2, 39 WAKEUP/PIO1_3, 40 PIO1_4, 41 PIO1_5, 42 PIO1_6, 43 VSS, 44 VDD, 45 RTCXOUT, 46 RTCXIN, 47 VDDIO, 48 VSSIO

## LPC1225FBD48-321
designator *  value LPC1225FBD48-321  Reference: U
LPC122x 32-bit ARM Cortex-M0 microcontroller, 80 kB FLASH, 8 kB SRAM, LQFP-48; ki_keywords: ARM, 32-bit, Cortex-M0, M0, NXP, microcontroller; ki_fp_filters: LQFP*7x7mm*P0.5mm*; Footprint: Package_QFP:LQFP-48_7x7mm_P0.5mm; Datasheet: https://www.nxp.com/docs/en/data-sheet/LPC122X.pdf; Description_: LPC122x 32-bit ARM Cortex-M0 microcontroller, 80 kB FLASH, 8 kB SRAM, LQFP-48
pins: 1 XTALIN, 2 XTALOUT, 3 VREF_CMP, 4 PIO0_19, 5 PIO0_20, 6 PIO0_21, 7 PIO0_22, 8 PIO0_23, 9 PIO0_24, 10 PIO0_25/SWDIO, 11 PIO0_26/SWCLK, 12 PIO0_27, 13 PIO0_28, 14 PIO0_29, 15 PIO0_0, 16 PIO0_1, 17 PIO0_2, 18 PIO0_3, 19 PIO0_4, 20 PIO0_5, 21 PIO0_6, 22 PIO0_7, 23 PIO0_8, 24 PIO0_9, 25 PIO0_10, 26 PIO0_11, 27 PIO0_12/~{{ISP}}, 28 PIO0_13/~{{RESET}}, 29 PIO0_14, 30 PIO0_15, 31 PIO0_16, 32 PIO0_17, 33 PIO0_18, 34 PIO0_30, 35 PIO0_31, 36 PIO1_0, 37 PIO1_1, 38 PIO1_2, 39 WAKEUP/PIO1_3, 40 PIO1_4, 41 PIO1_5, 42 PIO1_6, 43 VSS, 44 VDD, 45 RTCXOUT, 46 RTCXIN, 47 VDDIO, 48 VSSIO

## LPC1225FBD64-301
designator *  value LPC1225FBD64-301  Reference: U
LPC122x 32-bit ARM Cortex-M0 microcontroller, 64 kB FLASH, 8 kB SRAM, LQFP-64; ki_keywords: ARM, 32-bit, Cortex-M0, M0, NXP, microcontroller; ki_fp_filters: LQFP*10x10mm*P0.5mm*; Footprint: Package_QFP:LQFP-64_10x10mm_P0.5mm; Datasheet: https://www.nxp.com/docs/en/data-sheet/LPC122X.pdf; Description_: LPC122x 32-bit ARM Cortex-M0 microcontroller, 64 kB FLASH, 8 kB SRAM, LQFP-64
pins: 1 XTALIN, 2 XTALOUT, 3 VREF_CMP, 4 PIO0_19, 5 PIO0_20, 6 PIO0_21, 7 PIO0_22, 8 PIO0_23, 9 PIO0_24, 10 PIO0_25/SWDIO, 11 PIO0_26/SWCLK, 12 PIO0_27, 13 PIO2_12, 14 PIO2_13, 15 PIO2_14, 16 PIO2_15, 17 PIO0_28, 18 PIO0_29, 19 PIO0_0, 20 PIO0_1, 21 PIO0_2, 22 PIO0_3, 23 PIO0_4, 24 PIO0_5, 25 PIO0_6, 26 PIO0_7, 27 PIO0_8, 28 PIO0_9, 29 PIO2_0, 30 PIO2_1, 31 PIO2_2, 32 PIO2_3, 33 PIO2_4, 34 PIO2_5, 35 PIO2_6, 36 PIO2_7, 37 PIO0_10, 38 PIO0_11, 39 PIO0_12/~{{ISP}}, 40 PIO0_13/~{{RESET}}, 41 PIO0_14, 42 PIO0_15, 43 PIO0_16, 44 PIO0_17, 45 PIO0_18, 46 PIO0_30, 47 PIO0_31, 48 PIO1_0, 49 PIO1_1, 50 PIO1_2, 51 WAKEUP/PIO1_3, 52 PIO1_4, 53 PIO1_5, 54 PIO1_6, 55 VSS, 56 VDD, 57 RTCXOUT, 58 RTCXIN, 59 PIO2_8, 60 PIO2_9, 61 PIO2_10, 62 PIO2_11, 63 VDDIO, 64 VSSIO

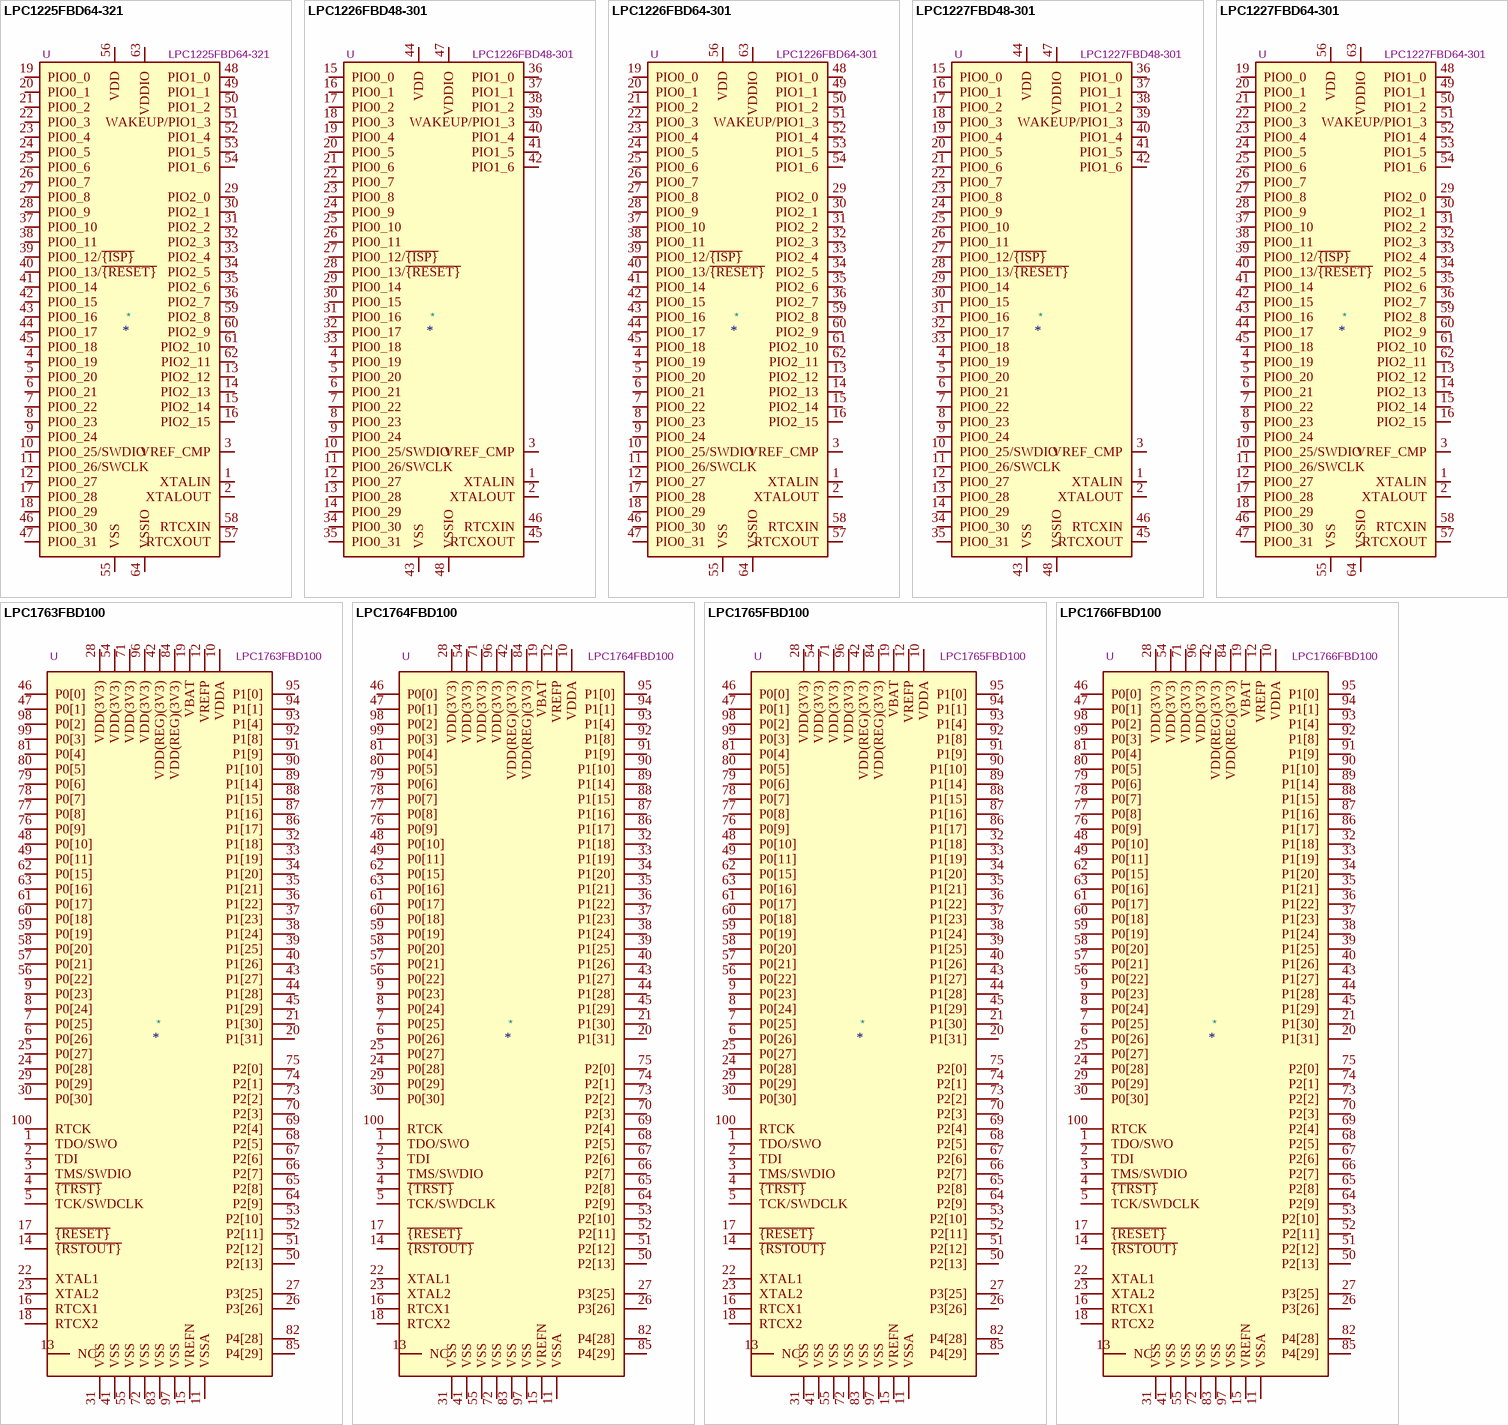
[diagram p6: symbols LPC1225FBD64-321 to LPC1766FBD100]

## LPC1225FBD64-321
designator *  value LPC1225FBD64-321  Reference: U
LPC122x 32-bit ARM Cortex-M0 microcontroller, 80 kB FLASH, 8 kB SRAM, LQFP-64; ki_keywords: ARM, 32-bit, Cortex-M0, M0, NXP, microcontroller; ki_fp_filters: LQFP*10x10mm*P0.5mm*; Footprint: Package_QFP:LQFP-64_10x10mm_P0.5mm; Datasheet: https://www.nxp.com/docs/en/data-sheet/LPC122X.pdf; Description_: LPC122x 32-bit ARM Cortex-M0 microcontroller, 80 kB FLASH, 8 kB SRAM, LQFP-64
pins: 1 XTALIN, 2 XTALOUT, 3 VREF_CMP, 4 PIO0_19, 5 PIO0_20, 6 PIO0_21, 7 PIO0_22, 8 PIO0_23, 9 PIO0_24, 10 PIO0_25/SWDIO, 11 PIO0_26/SWCLK, 12 PIO0_27, 13 PIO2_12, 14 PIO2_13, 15 PIO2_14, 16 PIO2_15, 17 PIO0_28, 18 PIO0_29, 19 PIO0_0, 20 PIO0_1, 21 PIO0_2, 22 PIO0_3, 23 PIO0_4, 24 PIO0_5, 25 PIO0_6, 26 PIO0_7, 27 PIO0_8, 28 PIO0_9, 29 PIO2_0, 30 PIO2_1, 31 PIO2_2, 32 PIO2_3, 33 PIO2_4, 34 PIO2_5, 35 PIO2_6, 36 PIO2_7, 37 PIO0_10, 38 PIO0_11, 39 PIO0_12/~{{ISP}}, 40 PIO0_13/~{{RESET}}, 41 PIO0_14, 42 PIO0_15, 43 PIO0_16, 44 PIO0_17, 45 PIO0_18, 46 PIO0_30, 47 PIO0_31, 48 PIO1_0, 49 PIO1_1, 50 PIO1_2, 51 WAKEUP/PIO1_3, 52 PIO1_4, 53 PIO1_5, 54 PIO1_6, 55 VSS, 56 VDD, 57 RTCXOUT, 58 RTCXIN, 59 PIO2_8, 60 PIO2_9, 61 PIO2_10, 62 PIO2_11, 63 VDDIO, 64 VSSIO

## LPC1226FBD48-301
designator *  value LPC1226FBD48-301  Reference: U
LPC122x 32-bit ARM Cortex-M0 microcontroller, 96 kB FLASH, 8 kB SRAM, LQFP-48; ki_keywords: ARM, 32-bit, Cortex-M0, M0, NXP, microcontroller; ki_fp_filters: LQFP*7x7mm*P0.5mm*; Footprint: Package_QFP:LQFP-48_7x7mm_P0.5mm; Datasheet: https://www.nxp.com/docs/en/data-sheet/LPC122X.pdf; Description_: LPC122x 32-bit ARM Cortex-M0 microcontroller, 96 kB FLASH, 8 kB SRAM, LQFP-48
pins: 1 XTALIN, 2 XTALOUT, 3 VREF_CMP, 4 PIO0_19, 5 PIO0_20, 6 PIO0_21, 7 PIO0_22, 8 PIO0_23, 9 PIO0_24, 10 PIO0_25/SWDIO, 11 PIO0_26/SWCLK, 12 PIO0_27, 13 PIO0_28, 14 PIO0_29, 15 PIO0_0, 16 PIO0_1, 17 PIO0_2, 18 PIO0_3, 19 PIO0_4, 20 PIO0_5, 21 PIO0_6, 22 PIO0_7, 23 PIO0_8, 24 PIO0_9, 25 PIO0_10, 26 PIO0_11, 27 PIO0_12/~{{ISP}}, 28 PIO0_13/~{{RESET}}, 29 PIO0_14, 30 PIO0_15, 31 PIO0_16, 32 PIO0_17, 33 PIO0_18, 34 PIO0_30, 35 PIO0_31, 36 PIO1_0, 37 PIO1_1, 38 PIO1_2, 39 WAKEUP/PIO1_3, 40 PIO1_4, 41 PIO1_5, 42 PIO1_6, 43 VSS, 44 VDD, 45 RTCXOUT, 46 RTCXIN, 47 VDDIO, 48 VSSIO

## LPC1226FBD64-301
designator *  value LPC1226FBD64-301  Reference: U
LPC122x 32-bit ARM Cortex-M0 microcontroller, 96 kB FLASH, 8 kB SRAM, LQFP-64; ki_keywords: ARM, 32-bit, Cortex-M0, M0, NXP, microcontroller; ki_fp_filters: LQFP*10x10mm*P0.5mm*; Footprint: Package_QFP:LQFP-64_10x10mm_P0.5mm; Datasheet: https://www.nxp.com/docs/en/data-sheet/LPC122X.pdf; Description_: LPC122x 32-bit ARM Cortex-M0 microcontroller, 96 kB FLASH, 8 kB SRAM, LQFP-64
pins: 1 XTALIN, 2 XTALOUT, 3 VREF_CMP, 4 PIO0_19, 5 PIO0_20, 6 PIO0_21, 7 PIO0_22, 8 PIO0_23, 9 PIO0_24, 10 PIO0_25/SWDIO, 11 PIO0_26/SWCLK, 12 PIO0_27, 13 PIO2_12, 14 PIO2_13, 15 PIO2_14, 16 PIO2_15, 17 PIO0_28, 18 PIO0_29, 19 PIO0_0, 20 PIO0_1, 21 PIO0_2, 22 PIO0_3, 23 PIO0_4, 24 PIO0_5, 25 PIO0_6, 26 PIO0_7, 27 PIO0_8, 28 PIO0_9, 29 PIO2_0, 30 PIO2_1, 31 PIO2_2, 32 PIO2_3, 33 PIO2_4, 34 PIO2_5, 35 PIO2_6, 36 PIO2_7, 37 PIO0_10, 38 PIO0_11, 39 PIO0_12/~{{ISP}}, 40 PIO0_13/~{{RESET}}, 41 PIO0_14, 42 PIO0_15, 43 PIO0_16, 44 PIO0_17, 45 PIO0_18, 46 PIO0_30, 47 PIO0_31, 48 PIO1_0, 49 PIO1_1, 50 PIO1_2, 51 WAKEUP/PIO1_3, 52 PIO1_4, 53 PIO1_5, 54 PIO1_6, 55 VSS, 56 VDD, 57 RTCXOUT, 58 RTCXIN, 59 PIO2_8, 60 PIO2_9, 61 PIO2_10, 62 PIO2_11, 63 VDDIO, 64 VSSIO

## LPC1227FBD48-301
designator *  value LPC1227FBD48-301  Reference: U
LPC122x 32-bit ARM Cortex-M0 microcontroller, 128 kB FLASH, 8 kB SRAM, LQFP-48; ki_keywords: ARM, 32-bit, Cortex-M0, M0, NXP, microcontroller; ki_fp_filters: LQFP*7x7mm*P0.5mm*; Footprint: Package_QFP:LQFP-48_7x7mm_P0.5mm; Datasheet: https://www.nxp.com/docs/en/data-sheet/LPC122X.pdf; Description_: LPC122x 32-bit ARM Cortex-M0 microcontroller, 128 kB FLASH, 8 kB SRAM, LQFP-48
pins: 1 XTALIN, 2 XTALOUT, 3 VREF_CMP, 4 PIO0_19, 5 PIO0_20, 6 PIO0_21, 7 PIO0_22, 8 PIO0_23, 9 PIO0_24, 10 PIO0_25/SWDIO, 11 PIO0_26/SWCLK, 12 PIO0_27, 13 PIO0_28, 14 PIO0_29, 15 PIO0_0, 16 PIO0_1, 17 PIO0_2, 18 PIO0_3, 19 PIO0_4, 20 PIO0_5, 21 PIO0_6, 22 PIO0_7, 23 PIO0_8, 24 PIO0_9, 25 PIO0_10, 26 PIO0_11, 27 PIO0_12/~{{ISP}}, 28 PIO0_13/~{{RESET}}, 29 PIO0_14, 30 PIO0_15, 31 PIO0_16, 32 PIO0_17, 33 PIO0_18, 34 PIO0_30, 35 PIO0_31, 36 PIO1_0, 37 PIO1_1, 38 PIO1_2, 39 WAKEUP/PIO1_3, 40 PIO1_4, 41 PIO1_5, 42 PIO1_6, 43 VSS, 44 VDD, 45 RTCXOUT, 46 RTCXIN, 47 VDDIO, 48 VSSIO

## LPC1227FBD64-301
designator *  value LPC1227FBD64-301  Reference: U
LPC122x 32-bit ARM Cortex-M0 microcontroller, 128 kB FLASH, 8 kB SRAM, LQFP-64; ki_keywords: ARM, 32-bit, Cortex-M0, M0, NXP, microcontroller; ki_fp_filters: LQFP*10x10mm*P0.5mm*; Footprint: Package_QFP:LQFP-64_10x10mm_P0.5mm; Datasheet: https://www.nxp.com/docs/en/data-sheet/LPC122X.pdf; Description_: LPC122x 32-bit ARM Cortex-M0 microcontroller, 128 kB FLASH, 8 kB SRAM, LQFP-64
pins: 1 XTALIN, 2 XTALOUT, 3 VREF_CMP, 4 PIO0_19, 5 PIO0_20, 6 PIO0_21, 7 PIO0_22, 8 PIO0_23, 9 PIO0_24, 10 PIO0_25/SWDIO, 11 PIO0_26/SWCLK, 12 PIO0_27, 13 PIO2_12, 14 PIO2_13, 15 PIO2_14, 16 PIO2_15, 17 PIO0_28, 18 PIO0_29, 19 PIO0_0, 20 PIO0_1, 21 PIO0_2, 22 PIO0_3, 23 PIO0_4, 24 PIO0_5, 25 PIO0_6, 26 PIO0_7, 27 PIO0_8, 28 PIO0_9, 29 PIO2_0, 30 PIO2_1, 31 PIO2_2, 32 PIO2_3, 33 PIO2_4, 34 PIO2_5, 35 PIO2_6, 36 PIO2_7, 37 PIO0_10, 38 PIO0_11, 39 PIO0_12/~{{ISP}}, 40 PIO0_13/~{{RESET}}, 41 PIO0_14, 42 PIO0_15, 43 PIO0_16, 44 PIO0_17, 45 PIO0_18, 46 PIO0_30, 47 PIO0_31, 48 PIO1_0, 49 PIO1_1, 50 PIO1_2, 51 WAKEUP/PIO1_3, 52 PIO1_4, 53 PIO1_5, 54 PIO1_6, 55 VSS, 56 VDD, 57 RTCXOUT, 58 RTCXIN, 59 PIO2_8, 60 PIO2_9, 61 PIO2_10, 62 PIO2_11, 63 VDDIO, 64 VSSIO

## LPC1763FBD100
designator *  value LPC1763FBD100  Reference: U
32-bit ARM Cortex-M3 microcontroller, 256KB flash, 64KB RAM; ki_keywords: ARM 32-bit Cortex-M3 M3 NXP microcontroller; ki_fp_filters: *QFP*14x14mm*P0.5mm*; Footprint: Package_QFP:LQFP-100_14x14mm_P0.5mm; Datasheet: http://www.nxp.com/docs/en/data-sheet/LPC1769_68_67_66_65_64_63.pdf; Description_: 32-bit ARM Cortex-M3 microcontroller, 256KB flash, 64KB RAM
pins: 1 TDO/SWO, 2 TDI, 3 TMS/SWDIO, 4 ~{{TRST}}, 5 TCK/SWDCLK, 6 P0[26], 7 P0[25], 8 P0[24], 9 P0[23], 10 VDDA, 11 VSSA, 12 VREFP, 13 NC, 14 ~{{RSTOUT}}, 15 VREFN, 16 RTCX1, 17 ~{{RESET}}, 18 RTCX2, 19 VBAT, 20 P1[31], 21 P1[30], 22 XTAL1, 23 XTAL2, 24 P0[28], 25 P0[27], 26 P3[26], 27 P3[25], 28 VDD(3V3), 29 P0[29], 30 P0[30], 31 VSS, 32 P1[18], 33 P1[19], 34 P1[20], 35 P1[21], 36 P1[22], 37 P1[23], 38 P1[24], 39 P1[25], 40 P1[26], 41 VSS, 42 VDD(REG)(3V3), 43 P1[27], 44 P1[28], 45 P1[29], 46 P0[0], 47 P0[1], 48 P0[10], 49 P0[11], 50 P2[13], 51 P2[12], 52 P2[11], 53 P2[10], 54 VDD(3V3), 55 VSS, 56 P0[22], 57 P0[21], 58 P0[20], 59 P0[19], 60 P0[18], 61 P0[17], 62 P0[15], 63 P0[16], 64 P2[9], 65 P2[8], 66 P2[7], 67 P2[6], 68 P2[5], 69 P2[4], 70 P2[3], 71 VDD(3V3), 72 VSS, 73 P2[2], 74 P2[1], 75 P2[0], 76 P0[9], 77 P0[8], 78 P0[7], 79 P0[6], 80 P0[5], 81 P0[4], 82 P4[28], 83 VSS, 84 VDD(REG)(3V3), 85 P4[29], 86 P1[17], 87 P1[16], 88 P1[15], 89 P1[14], 90 P1[10], 91 P1[9], 92 P1[8], 93 P1[4], 94 P1[1], 95 P1[0], 96 VDD(3V3), 97 VSS, 98 P0[2], 99 P0[3], 100 RTCK

## LPC1764FBD100
designator *  value LPC1764FBD100  Reference: U
32-bit ARM Cortex-M3 microcontroller, 128KB flash, 32KB RAM, Ethernet, USB; ki_keywords: ARM, 32-bit, Cortex-M3, M3, NXP, microcontroller; ki_fp_filters: *QFP*14x14mm*P0.5mm*; Footprint: Package_QFP:LQFP-100_14x14mm_P0.5mm; Datasheet: http://www.nxp.com/docs/en/data-sheet/LPC1769_68_67_66_65_64_63.pdf; Description_: 32-bit ARM Cortex-M3 microcontroller, 128KB flash, 32KB RAM, Ethernet, USB
pins: 1 TDO/SWO, 2 TDI, 3 TMS/SWDIO, 4 ~{{TRST}}, 5 TCK/SWDCLK, 6 P0[26], 7 P0[25], 8 P0[24], 9 P0[23], 10 VDDA, 11 VSSA, 12 VREFP, 13 NC, 14 ~{{RSTOUT}}, 15 VREFN, 16 RTCX1, 17 ~{{RESET}}, 18 RTCX2, 19 VBAT, 20 P1[31], 21 P1[30], 22 XTAL1, 23 XTAL2, 24 P0[28], 25 P0[27], 26 P3[26], 27 P3[25], 28 VDD(3V3), 29 P0[29], 30 P0[30], 31 VSS, 32 P1[18], 33 P1[19], 34 P1[20], 35 P1[21], 36 P1[22], 37 P1[23], 38 P1[24], 39 P1[25], 40 P1[26], 41 VSS, 42 VDD(REG)(3V3), 43 P1[27], 44 P1[28], 45 P1[29], 46 P0[0], 47 P0[1], 48 P0[10], 49 P0[11], 50 P2[13], 51 P2[12], 52 P2[11], 53 P2[10], 54 VDD(3V3), 55 VSS, 56 P0[22], 57 P0[21], 58 P0[20], 59 P0[19], 60 P0[18], 61 P0[17], 62 P0[15], 63 P0[16], 64 P2[9], 65 P2[8], 66 P2[7], 67 P2[6], 68 P2[5], 69 P2[4], 70 P2[3], 71 VDD(3V3), 72 VSS, 73 P2[2], 74 P2[1], 75 P2[0], 76 P0[9], 77 P0[8], 78 P0[7], 79 P0[6], 80 P0[5], 81 P0[4], 82 P4[28], 83 VSS, 84 VDD(REG)(3V3), 85 P4[29], 86 P1[17], 87 P1[16], 88 P1[15], 89 P1[14], 90 P1[10], 91 P1[9], 92 P1[8], 93 P1[4], 94 P1[1], 95 P1[0], 96 VDD(3V3), 97 VSS, 98 P0[2], 99 P0[3], 100 RTCK

## LPC1765FBD100
designator *  value LPC1765FBD100  Reference: U
32-bit ARM Cortex-M3 microcontroller, 256KB flash, 64KB RAM, USB; ki_keywords: ARM, 32-bit, Cortex-M3, M3, NXP, microcontroller; ki_fp_filters: *QFP*14x14mm*P0.5mm*; Footprint: Package_QFP:LQFP-100_14x14mm_P0.5mm; Datasheet: http://www.nxp.com/docs/en/data-sheet/LPC1769_68_67_66_65_64_63.pdf; Description_: 32-bit ARM Cortex-M3 microcontroller, 256KB flash, 64KB RAM, USB
pins: 1 TDO/SWO, 2 TDI, 3 TMS/SWDIO, 4 ~{{TRST}}, 5 TCK/SWDCLK, 6 P0[26], 7 P0[25], 8 P0[24], 9 P0[23], 10 VDDA, 11 VSSA, 12 VREFP, 13 NC, 14 ~{{RSTOUT}}, 15 VREFN, 16 RTCX1, 17 ~{{RESET}}, 18 RTCX2, 19 VBAT, 20 P1[31], 21 P1[30], 22 XTAL1, 23 XTAL2, 24 P0[28], 25 P0[27], 26 P3[26], 27 P3[25], 28 VDD(3V3), 29 P0[29], 30 P0[30], 31 VSS, 32 P1[18], 33 P1[19], 34 P1[20], 35 P1[21], 36 P1[22], 37 P1[23], 38 P1[24], 39 P1[25], 40 P1[26], 41 VSS, 42 VDD(REG)(3V3), 43 P1[27], 44 P1[28], 45 P1[29], 46 P0[0], 47 P0[1], 48 P0[10], 49 P0[11], 50 P2[13], 51 P2[12], 52 P2[11], 53 P2[10], 54 VDD(3V3), 55 VSS, 56 P0[22], 57 P0[21], 58 P0[20], 59 P0[19], 60 P0[18], 61 P0[17], 62 P0[15], 63 P0[16], 64 P2[9], 65 P2[8], 66 P2[7], 67 P2[6], 68 P2[5], 69 P2[4], 70 P2[3], 71 VDD(3V3), 72 VSS, 73 P2[2], 74 P2[1], 75 P2[0], 76 P0[9], 77 P0[8], 78 P0[7], 79 P0[6], 80 P0[5], 81 P0[4], 82 P4[28], 83 VSS, 84 VDD(REG)(3V3), 85 P4[29], 86 P1[17], 87 P1[16], 88 P1[15], 89 P1[14], 90 P1[10], 91 P1[9], 92 P1[8], 93 P1[4], 94 P1[1], 95 P1[0], 96 VDD(3V3), 97 VSS, 98 P0[2], 99 P0[3], 100 RTCK

## LPC1766FBD100
designator *  value LPC1766FBD100  Reference: U
32-bit ARM Cortex-M3 microcontroller, 256KB flash, 64KB RAM, Ethernet, USB; ki_keywords: ARM, 32-bit, Cortex-M3, M3, NXP, microcontroller; ki_fp_filters: *QFP*14x14mm*P0.5mm*; Footprint: Package_QFP:LQFP-100_14x14mm_P0.5mm; Datasheet: http://www.nxp.com/docs/en/data-sheet/LPC1769_68_67_66_65_64_63.pdf; Description_: 32-bit ARM Cortex-M3 microcontroller, 256KB flash, 64KB RAM, Ethernet, USB
pins: 1 TDO/SWO, 2 TDI, 3 TMS/SWDIO, 4 ~{{TRST}}, 5 TCK/SWDCLK, 6 P0[26], 7 P0[25], 8 P0[24], 9 P0[23], 10 VDDA, 11 VSSA, 12 VREFP, 13 NC, 14 ~{{RSTOUT}}, 15 VREFN, 16 RTCX1, 17 ~{{RESET}}, 18 RTCX2, 19 VBAT, 20 P1[31], 21 P1[30], 22 XTAL1, 23 XTAL2, 24 P0[28], 25 P0[27], 26 P3[26], 27 P3[25], 28 VDD(3V3), 29 P0[29], 30 P0[30], 31 VSS, 32 P1[18], 33 P1[19], 34 P1[20], 35 P1[21], 36 P1[22], 37 P1[23], 38 P1[24], 39 P1[25], 40 P1[26], 41 VSS, 42 VDD(REG)(3V3), 43 P1[27], 44 P1[28], 45 P1[29], 46 P0[0], 47 P0[1], 48 P0[10], 49 P0[11], 50 P2[13], 51 P2[12], 52 P2[11], 53 P2[10], 54 VDD(3V3), 55 VSS, 56 P0[22], 57 P0[21], 58 P0[20], 59 P0[19], 60 P0[18], 61 P0[17], 62 P0[15], 63 P0[16], 64 P2[9], 65 P2[8], 66 P2[7], 67 P2[6], 68 P2[5], 69 P2[4], 70 P2[3], 71 VDD(3V3), 72 VSS, 73 P2[2], 74 P2[1], 75 P2[0], 76 P0[9], 77 P0[8], 78 P0[7], 79 P0[6], 80 P0[5], 81 P0[4], 82 P4[28], 83 VSS, 84 VDD(REG)(3V3), 85 P4[29], 86 P1[17], 87 P1[16], 88 P1[15], 89 P1[14], 90 P1[10], 91 P1[9], 92 P1[8], 93 P1[4], 94 P1[1], 95 P1[0], 96 VDD(3V3), 97 VSS, 98 P0[2], 99 P0[3], 100 RTCK

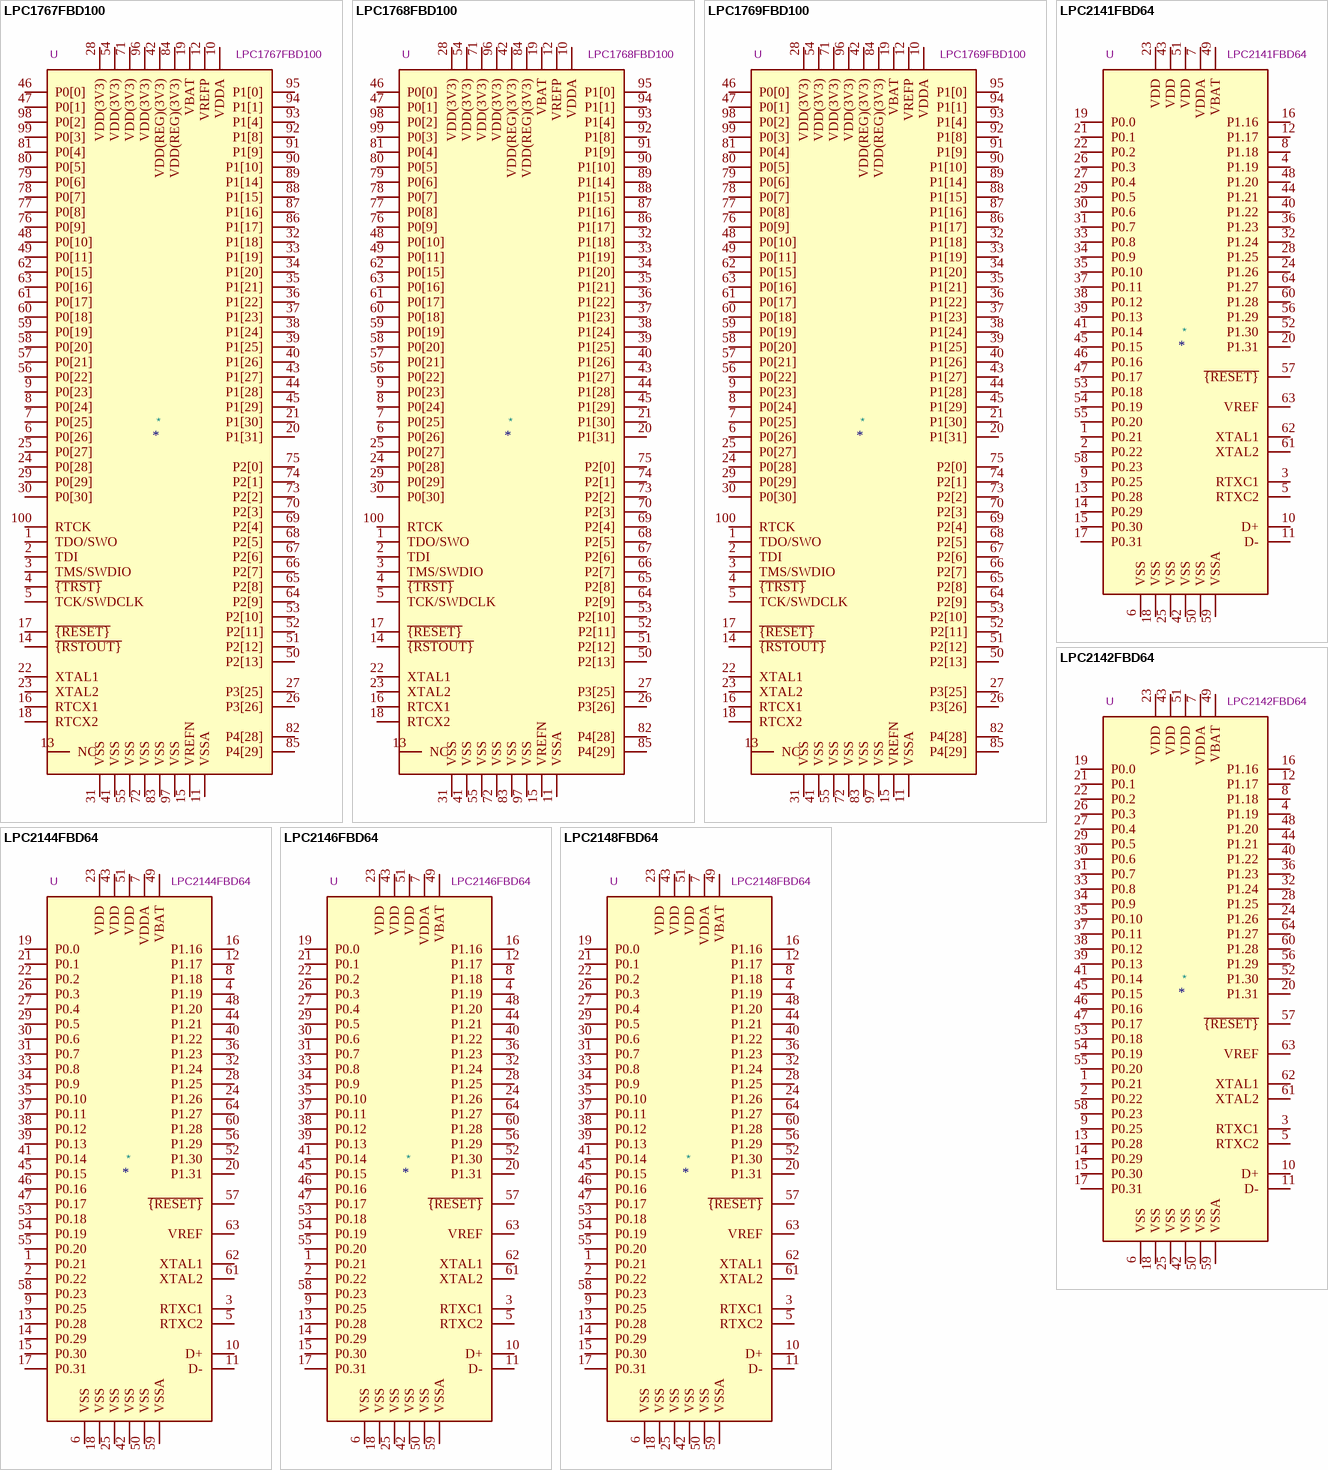
[diagram p7: symbols LPC1767FBD100 to LPC2148FBD64]

## LPC1767FBD100
designator *  value LPC1767FBD100  Reference: U
32-bit ARM Cortex-M3 microcontroller, 512KB flash, 64KB RAM, Ethernet; ki_keywords: ARM, 32-bit, Cortex-M3, M3, NXP, microcontroller; ki_fp_filters: *QFP*14x14mm*P0.5mm*; Footprint: Package_QFP:LQFP-100_14x14mm_P0.5mm; Datasheet: http://www.nxp.com/docs/en/data-sheet/LPC1769_68_67_66_65_64_63.pdf; Description_: 32-bit ARM Cortex-M3 microcontroller, 512KB flash, 64KB RAM, Ethernet
pins: 1 TDO/SWO, 2 TDI, 3 TMS/SWDIO, 4 ~{{TRST}}, 5 TCK/SWDCLK, 6 P0[26], 7 P0[25], 8 P0[24], 9 P0[23], 10 VDDA, 11 VSSA, 12 VREFP, 13 NC, 14 ~{{RSTOUT}}, 15 VREFN, 16 RTCX1, 17 ~{{RESET}}, 18 RTCX2, 19 VBAT, 20 P1[31], 21 P1[30], 22 XTAL1, 23 XTAL2, 24 P0[28], 25 P0[27], 26 P3[26], 27 P3[25], 28 VDD(3V3), 29 P0[29], 30 P0[30], 31 VSS, 32 P1[18], 33 P1[19], 34 P1[20], 35 P1[21], 36 P1[22], 37 P1[23], 38 P1[24], 39 P1[25], 40 P1[26], 41 VSS, 42 VDD(REG)(3V3), 43 P1[27], 44 P1[28], 45 P1[29], 46 P0[0], 47 P0[1], 48 P0[10], 49 P0[11], 50 P2[13], 51 P2[12], 52 P2[11], 53 P2[10], 54 VDD(3V3), 55 VSS, 56 P0[22], 57 P0[21], 58 P0[20], 59 P0[19], 60 P0[18], 61 P0[17], 62 P0[15], 63 P0[16], 64 P2[9], 65 P2[8], 66 P2[7], 67 P2[6], 68 P2[5], 69 P2[4], 70 P2[3], 71 VDD(3V3), 72 VSS, 73 P2[2], 74 P2[1], 75 P2[0], 76 P0[9], 77 P0[8], 78 P0[7], 79 P0[6], 80 P0[5], 81 P0[4], 82 P4[28], 83 VSS, 84 VDD(REG)(3V3), 85 P4[29], 86 P1[17], 87 P1[16], 88 P1[15], 89 P1[14], 90 P1[10], 91 P1[9], 92 P1[8], 93 P1[4], 94 P1[1], 95 P1[0], 96 VDD(3V3), 97 VSS, 98 P0[2], 99 P0[3], 100 RTCK

## LPC1768FBD100
designator *  value LPC1768FBD100  Reference: U
32-bit ARM Cortex-M3 microcontroller, 512KB flash, 64KB RAM, Ethernet, USB; ki_keywords: ARM, 32-bit, Cortex-M3, M3, NXP, microcontroller; ki_fp_filters: *QFP*14x14mm*P0.5mm*; Footprint: Package_QFP:LQFP-100_14x14mm_P0.5mm; Datasheet: http://www.nxp.com/docs/en/data-sheet/LPC1769_68_67_66_65_64_63.pdf; Description_: 32-bit ARM Cortex-M3 microcontroller, 512KB flash, 64KB RAM, Ethernet, USB
pins: 1 TDO/SWO, 2 TDI, 3 TMS/SWDIO, 4 ~{{TRST}}, 5 TCK/SWDCLK, 6 P0[26], 7 P0[25], 8 P0[24], 9 P0[23], 10 VDDA, 11 VSSA, 12 VREFP, 13 NC, 14 ~{{RSTOUT}}, 15 VREFN, 16 RTCX1, 17 ~{{RESET}}, 18 RTCX2, 19 VBAT, 20 P1[31], 21 P1[30], 22 XTAL1, 23 XTAL2, 24 P0[28], 25 P0[27], 26 P3[26], 27 P3[25], 28 VDD(3V3), 29 P0[29], 30 P0[30], 31 VSS, 32 P1[18], 33 P1[19], 34 P1[20], 35 P1[21], 36 P1[22], 37 P1[23], 38 P1[24], 39 P1[25], 40 P1[26], 41 VSS, 42 VDD(REG)(3V3), 43 P1[27], 44 P1[28], 45 P1[29], 46 P0[0], 47 P0[1], 48 P0[10], 49 P0[11], 50 P2[13], 51 P2[12], 52 P2[11], 53 P2[10], 54 VDD(3V3), 55 VSS, 56 P0[22], 57 P0[21], 58 P0[20], 59 P0[19], 60 P0[18], 61 P0[17], 62 P0[15], 63 P0[16], 64 P2[9], 65 P2[8], 66 P2[7], 67 P2[6], 68 P2[5], 69 P2[4], 70 P2[3], 71 VDD(3V3), 72 VSS, 73 P2[2], 74 P2[1], 75 P2[0], 76 P0[9], 77 P0[8], 78 P0[7], 79 P0[6], 80 P0[5], 81 P0[4], 82 P4[28], 83 VSS, 84 VDD(REG)(3V3), 85 P4[29], 86 P1[17], 87 P1[16], 88 P1[15], 89 P1[14], 90 P1[10], 91 P1[9], 92 P1[8], 93 P1[4], 94 P1[1], 95 P1[0], 96 VDD(3V3), 97 VSS, 98 P0[2], 99 P0[3], 100 RTCK

## LPC1769FBD100
designator *  value LPC1769FBD100  Reference: U
32-bit ARM Cortex-M3 microcontroller, 512KB flash, 64KB RAM, Ethernet, USB; ki_keywords: ARM, 32-bit, Cortex-M3, M3, NXP, microcontroller; ki_fp_filters: *QFP*14x14mm*P0.5mm*; Footprint: Package_QFP:LQFP-100_14x14mm_P0.5mm; Datasheet: http://www.nxp.com/docs/en/data-sheet/LPC1769_68_67_66_65_64_63.pdf; Description_: 32-bit ARM Cortex-M3 microcontroller, 512KB flash, 64KB RAM, Ethernet, USB
pins: 1 TDO/SWO, 2 TDI, 3 TMS/SWDIO, 4 ~{{TRST}}, 5 TCK/SWDCLK, 6 P0[26], 7 P0[25], 8 P0[24], 9 P0[23], 10 VDDA, 11 VSSA, 12 VREFP, 13 NC, 14 ~{{RSTOUT}}, 15 VREFN, 16 RTCX1, 17 ~{{RESET}}, 18 RTCX2, 19 VBAT, 20 P1[31], 21 P1[30], 22 XTAL1, 23 XTAL2, 24 P0[28], 25 P0[27], 26 P3[26], 27 P3[25], 28 VDD(3V3), 29 P0[29], 30 P0[30], 31 VSS, 32 P1[18], 33 P1[19], 34 P1[20], 35 P1[21], 36 P1[22], 37 P1[23], 38 P1[24], 39 P1[25], 40 P1[26], 41 VSS, 42 VDD(REG)(3V3), 43 P1[27], 44 P1[28], 45 P1[29], 46 P0[0], 47 P0[1], 48 P0[10], 49 P0[11], 50 P2[13], 51 P2[12], 52 P2[11], 53 P2[10], 54 VDD(3V3), 55 VSS, 56 P0[22], 57 P0[21], 58 P0[20], 59 P0[19], 60 P0[18], 61 P0[17], 62 P0[15], 63 P0[16], 64 P2[9], 65 P2[8], 66 P2[7], 67 P2[6], 68 P2[5], 69 P2[4], 70 P2[3], 71 VDD(3V3), 72 VSS, 73 P2[2], 74 P2[1], 75 P2[0], 76 P0[9], 77 P0[8], 78 P0[7], 79 P0[6], 80 P0[5], 81 P0[4], 82 P4[28], 83 VSS, 84 VDD(REG)(3V3), 85 P4[29], 86 P1[17], 87 P1[16], 88 P1[15], 89 P1[14], 90 P1[10], 91 P1[9], 92 P1[8], 93 P1[4], 94 P1[1], 95 P1[0], 96 VDD(3V3), 97 VSS, 98 P0[2], 99 P0[3], 100 RTCK

## LPC2141FBD64
designator *  value LPC2141FBD64  Reference: U
16-bit/32-bit ARM7TDMI-S microcontroller, 32kB flash, 8kB RAM; ki_keywords: ARM, 16-bit, 32-bit, ARM7, NXP, microcontroller; ki_fp_filters: *LQFP*10x10mm*P0.5mm*; Footprint: Package_QFP:LQFP-64_10x10mm_P0.5mm; Datasheet: http://www.nxp.com/docs/en/data-sheet/LPC2141_42_44_46_48.pdf; Description_: 16-bit/32-bit ARM7TDMI-S microcontroller, 32kB flash, 8kB RAM
pins: 1 P0.21, 2 P0.22, 3 RTXC1, 4 P1.19, 5 RTXC2, 6 VSS, 7 VDDA, 8 P1.18, 9 P0.25, 10 D+, 11 D-, 12 P1.17, 13 P0.28, 14 P0.29, 15 P0.30, 16 P1.16, 17 P0.31, 18 VSS, 19 P0.0, 20 P1.31, 21 P0.1, 22 P0.2, 23 VDD, 24 P1.26, 25 VSS, 26 P0.3, 27 P0.4, 28 P1.25, 29 P0.5, 30 P0.6, 31 P0.7, 32 P1.24, 33 P0.8, 34 P0.9, 35 P0.10, 36 P1.23, 37 P0.11, 38 P0.12, 39 P0.13, 40 P1.22, 41 P0.14, 42 VSS, 43 VDD, 44 P1.21, 45 P0.15, 46 P0.16, 47 P0.17, 48 P1.20, 49 VBAT, 50 VSS, 51 VDD, 52 P1.30, 53 P0.18, 54 P0.19, 55 P0.20, 56 P1.29, 57 ~{{RESET}}, 58 P0.23, 59 VSSA, 60 P1.28, 61 XTAL2, 62 XTAL1, 63 VREF, 64 P1.27

## LPC2142FBD64
designator *  value LPC2142FBD64  Reference: U
16-bit/32-bit ARM7TDMI-S microcontroller, 64kB flash, 16kB RAM; ki_keywords: ARM, 16-bit, 32-bit, ARM7, NXP, microcontroller; ki_fp_filters: *LQFP*10x10mm*P0.5mm*; Footprint: Package_QFP:LQFP-64_10x10mm_P0.5mm; Datasheet: http://www.nxp.com/docs/en/data-sheet/LPC2141_42_44_46_48.pdf; Description_: 16-bit/32-bit ARM7TDMI-S microcontroller, 64kB flash, 16kB RAM
pins: 1 P0.21, 2 P0.22, 3 RTXC1, 4 P1.19, 5 RTXC2, 6 VSS, 7 VDDA, 8 P1.18, 9 P0.25, 10 D+, 11 D-, 12 P1.17, 13 P0.28, 14 P0.29, 15 P0.30, 16 P1.16, 17 P0.31, 18 VSS, 19 P0.0, 20 P1.31, 21 P0.1, 22 P0.2, 23 VDD, 24 P1.26, 25 VSS, 26 P0.3, 27 P0.4, 28 P1.25, 29 P0.5, 30 P0.6, 31 P0.7, 32 P1.24, 33 P0.8, 34 P0.9, 35 P0.10, 36 P1.23, 37 P0.11, 38 P0.12, 39 P0.13, 40 P1.22, 41 P0.14, 42 VSS, 43 VDD, 44 P1.21, 45 P0.15, 46 P0.16, 47 P0.17, 48 P1.20, 49 VBAT, 50 VSS, 51 VDD, 52 P1.30, 53 P0.18, 54 P0.19, 55 P0.20, 56 P1.29, 57 ~{{RESET}}, 58 P0.23, 59 VSSA, 60 P1.28, 61 XTAL2, 62 XTAL1, 63 VREF, 64 P1.27

## LPC2144FBD64
designator *  value LPC2144FBD64  Reference: U
16-bit/32-bit ARM7TDMI-S microcontroller, 128kB flash, 16kB RAM; ki_keywords: ARM, 16-bit, 32-bit, ARM7, NXP, microcontroller; ki_fp_filters: *LQFP*10x10mm*P0.5mm*; Footprint: Package_QFP:LQFP-64_10x10mm_P0.5mm; Datasheet: http://www.nxp.com/docs/en/data-sheet/LPC2141_42_44_46_48.pdf; Description_: 16-bit/32-bit ARM7TDMI-S microcontroller, 128kB flash, 16kB RAM
pins: 1 P0.21, 2 P0.22, 3 RTXC1, 4 P1.19, 5 RTXC2, 6 VSS, 7 VDDA, 8 P1.18, 9 P0.25, 10 D+, 11 D-, 12 P1.17, 13 P0.28, 14 P0.29, 15 P0.30, 16 P1.16, 17 P0.31, 18 VSS, 19 P0.0, 20 P1.31, 21 P0.1, 22 P0.2, 23 VDD, 24 P1.26, 25 VSS, 26 P0.3, 27 P0.4, 28 P1.25, 29 P0.5, 30 P0.6, 31 P0.7, 32 P1.24, 33 P0.8, 34 P0.9, 35 P0.10, 36 P1.23, 37 P0.11, 38 P0.12, 39 P0.13, 40 P1.22, 41 P0.14, 42 VSS, 43 VDD, 44 P1.21, 45 P0.15, 46 P0.16, 47 P0.17, 48 P1.20, 49 VBAT, 50 VSS, 51 VDD, 52 P1.30, 53 P0.18, 54 P0.19, 55 P0.20, 56 P1.29, 57 ~{{RESET}}, 58 P0.23, 59 VSSA, 60 P1.28, 61 XTAL2, 62 XTAL1, 63 VREF, 64 P1.27

## LPC2146FBD64
designator *  value LPC2146FBD64  Reference: U
16-bit/32-bit ARM7TDMI-S microcontroller, 256kB flash, 40kB RAM; ki_keywords: ARM, 16-bit, 32-bit, ARM7, NXP, microcontroller; ki_fp_filters: *LQFP*10x10mm*P0.5mm*; Footprint: Package_QFP:LQFP-64_10x10mm_P0.5mm; Datasheet: http://www.nxp.com/docs/en/data-sheet/LPC2141_42_44_46_48.pdf; Description_: 16-bit/32-bit ARM7TDMI-S microcontroller, 256kB flash, 40kB RAM
pins: 1 P0.21, 2 P0.22, 3 RTXC1, 4 P1.19, 5 RTXC2, 6 VSS, 7 VDDA, 8 P1.18, 9 P0.25, 10 D+, 11 D-, 12 P1.17, 13 P0.28, 14 P0.29, 15 P0.30, 16 P1.16, 17 P0.31, 18 VSS, 19 P0.0, 20 P1.31, 21 P0.1, 22 P0.2, 23 VDD, 24 P1.26, 25 VSS, 26 P0.3, 27 P0.4, 28 P1.25, 29 P0.5, 30 P0.6, 31 P0.7, 32 P1.24, 33 P0.8, 34 P0.9, 35 P0.10, 36 P1.23, 37 P0.11, 38 P0.12, 39 P0.13, 40 P1.22, 41 P0.14, 42 VSS, 43 VDD, 44 P1.21, 45 P0.15, 46 P0.16, 47 P0.17, 48 P1.20, 49 VBAT, 50 VSS, 51 VDD, 52 P1.30, 53 P0.18, 54 P0.19, 55 P0.20, 56 P1.29, 57 ~{{RESET}}, 58 P0.23, 59 VSSA, 60 P1.28, 61 XTAL2, 62 XTAL1, 63 VREF, 64 P1.27

## LPC2148FBD64
designator *  value LPC2148FBD64  Reference: U
16-bit/32-bit ARM7TDMI-S microcontroller, 512kB flash, 40kB RAM; ki_keywords: ARM, 16-bit, 32-bit, ARM7, NXP, microcontroller; ki_fp_filters: *LQFP*10x10mm*P0.5mm*; Footprint: Package_QFP:LQFP-64_10x10mm_P0.5mm; Datasheet: http://www.nxp.com/docs/en/data-sheet/LPC2141_42_44_46_48.pdf; Description_: 16-bit/32-bit ARM7TDMI-S microcontroller, 512kB flash, 40kB RAM
pins: 1 P0.21, 2 P0.22, 3 RTXC1, 4 P1.19, 5 RTXC2, 6 VSS, 7 VDDA, 8 P1.18, 9 P0.25, 10 D+, 11 D-, 12 P1.17, 13 P0.28, 14 P0.29, 15 P0.30, 16 P1.16, 17 P0.31, 18 VSS, 19 P0.0, 20 P1.31, 21 P0.1, 22 P0.2, 23 VDD, 24 P1.26, 25 VSS, 26 P0.3, 27 P0.4, 28 P1.25, 29 P0.5, 30 P0.6, 31 P0.7, 32 P1.24, 33 P0.8, 34 P0.9, 35 P0.10, 36 P1.23, 37 P0.11, 38 P0.12, 39 P0.13, 40 P1.22, 41 P0.14, 42 VSS, 43 VDD, 44 P1.21, 45 P0.15, 46 P0.16, 47 P0.17, 48 P1.20, 49 VBAT, 50 VSS, 51 VDD, 52 P1.30, 53 P0.18, 54 P0.19, 55 P0.20, 56 P1.29, 57 ~{{RESET}}, 58 P0.23, 59 VSSA, 60 P1.28, 61 XTAL2, 62 XTAL1, 63 VREF, 64 P1.27